# Altium integrated library Renesas Microcontroller M16C.IntLib: 423 symbols (part 16 of 30)
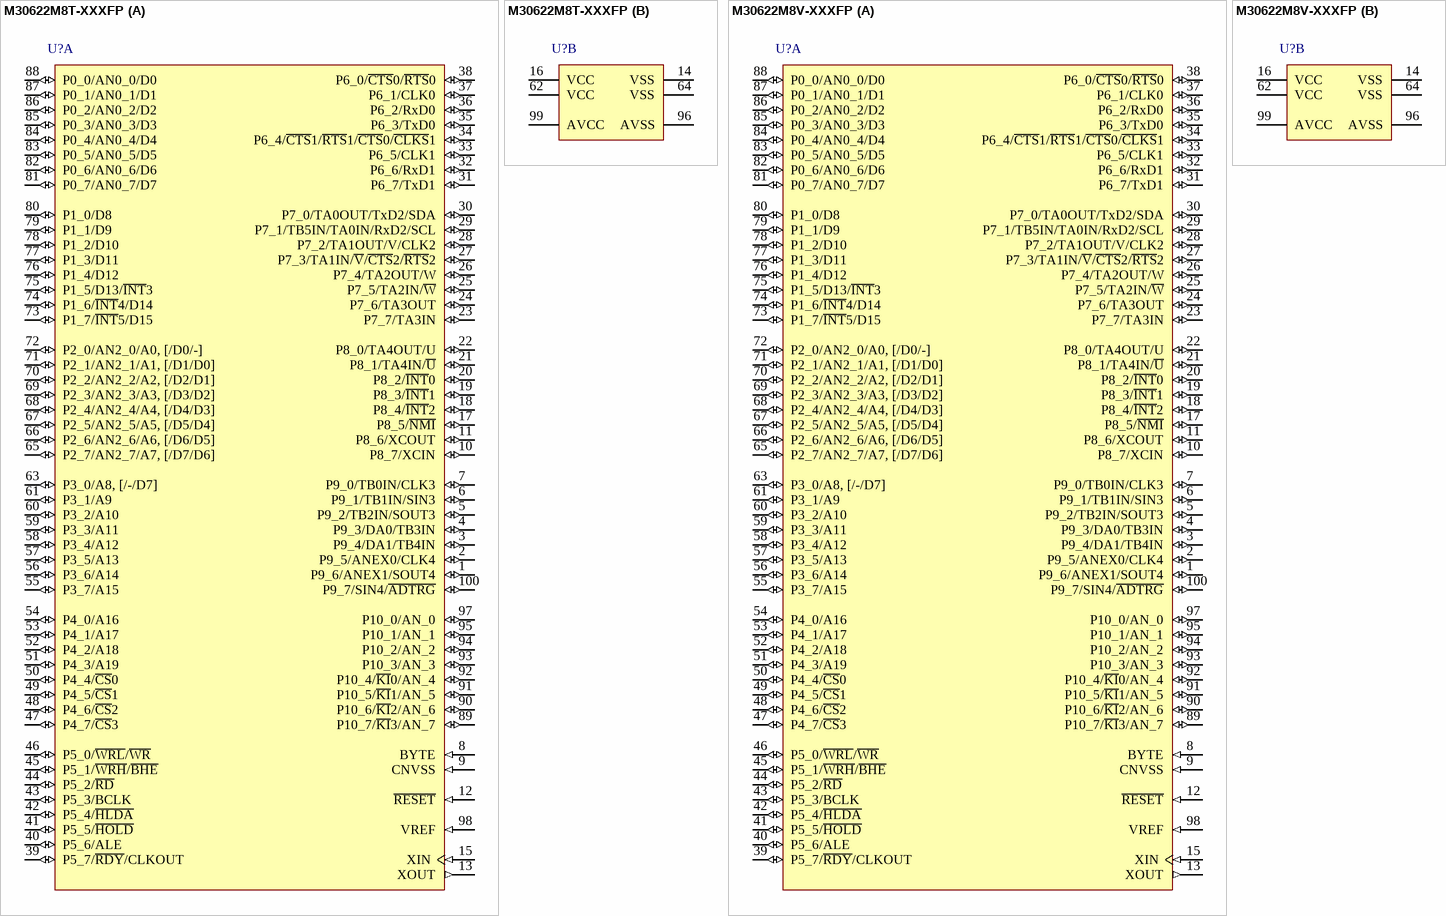
[diagram p201: symbols M30622M8T-XXXFP to M30622M8V-XXXFP]

## M30622M8T-XXXFP
designator U?
Mask ROM M16C/60 Series, 62T Group MCU, 64K ROM, 4K RAM, 100-pin RQFP, +85°C; Note: P7_0 and P7_1 are N channel open-drain output pins.; Published: 28-Aug-2009; DatasheetVersion: Rev.A1, Aug-1999; PackageVersion: Sep-2005; PackageReference: PRQP0100JB-A; Publisher: Altium Limited; PackageDescription: 100-Pin Plastic Quad Flat Pack, 20 x 14 x 2.8 mm Body, 0.65 mm Pitch; Code_JEITA: P-QFP100-14x20-0.65; ComponentLink1Description: Manufacturer Link; ComponentLink1URL: http://sg.renesas.com/fmwk.jsp?cnt=m16c_family_landing.jsp&fp=/products/mpumcu/m16c_family/; ComponentLink2Description: Datasheet; ComponentLink2URL: http://documentation.renesas.com/eng/products/mpumcu/62teds.pdf; ComponentLink3Description: Packaging Specification; ComponentLink3URL: http://sg.renesas.com/media/products/common_info/package/pdf/ic/code/prqp0100jb_a.pdf
footprint PRQP0100JB-A_N (QFP, 100-Leads, Body 20x14mm, Pitch 0.65mm, IPC Medium Density)
footprint PRQP0100JB-A_L (QFP, 100-Leads, Body 20x14mm, Pitch 0.65mm, IPC High Density)
footprint PRQP0100JB-A_M (QFP, 100-Leads, Body 20x14mm, Pitch 0.65mm, IPC Low Density)
part A pins: 1 P9_6/ANEX1/SOUT4 (io), 2 P9_5/ANEX0/CLK4 (io), 3 P9_4/DA1/TB4IN (io), 4 P9_3/DA0/TB3IN (io), 5 P9_2/TB2IN/SOUT3 (io), 6 P9_1/TB1IN/SIN3 (io), 7 P9_0/TB0IN/CLK3 (io), 8 BYTE (in), 9 CNVSS (in), 10 P8_7/XCIN (io), 11 P8_6/XCOUT (io), 12 ~{RESET} (in), 13 XOUT (out), 15 XIN (in), 17 P8_5/~{NMI} (io), 18 P8_4/~{INT}2 (io), 19 P8_3/~{INT}1 (io), 20 P8_2/~{INT}0 (io), 21 P8_1/TA4IN/~{U} (io), 22 P8_0/TA4OUT/U (io), 23 P7_7/TA3IN (io), 24 P7_6/TA3OUT (io), 25 P7_5/TA2IN/~{W} (io), 26 P7_4/TA2OUT/W (io), 27 P7_3/TA1IN/~{V}/~{CTS}2/~{RTS}2 (io), 28 P7_2/TA1OUT/V/CLK2 (io), 29 P7_1/TB5IN/TA0IN/RxD2/SCL (io), 30 P7_0/TA0OUT/TxD2/SDA (io), 31 P6_7/TxD1 (io), 32 P6_6/RxD1 (io), 33 P6_5/CLK1 (io), 34 P6_4/~{CTS}1/~{RTS}1/~{CTS}0/~{CLKS}1 (io), 35 P6_3/TxD0 (io), 36 P6_2/RxD0 (io), 37 P6_1/CLK0 (io), 38 P6_0/~{CTS}0/~{RTS}0 (io), 39 P5_7/~{RDY}/CLKOUT (io), 40 P5_6/ALE (io), 41 P5_5/~{HOLD} (io), 42 P5_4/~{HLDA} (io), 43 P5_3/BCLK (io), 44 P5_2/~{RD} (io), 45 P5_1/~{WRH}/~{BHE} (io), 46 P5_0/~{WRL}/~{WR} (io), 47 P4_7/~{CS}3 (io), 48 P4_6/~{CS}2 (io), 49 P4_5/~{CS}1 (io), 50 P4_4/~{CS}0 (io), 51 P4_3/A19 (io), 52 P4_2/A18 (io), 53 P4_1/A17 (io), 54 P4_0/A16 (io), 55 P3_7/A15 (io), 56 P3_6/A14 (io), 57 P3_5/A13 (io), 58 P3_4/A12 (io), 59 P3_3/A11 (io), 60 P3_2/A10 (io), 61 P3_1/A9 (io), 63 P3_0/A8, [/-/D7] (io), 65 P2_7/AN2_7/A7, [/D7/D6] (io), 66 P2_6/AN2_6/A6, [/D6/D5] (io), 67 P2_5/AN2_5/A5, [/D5/D4] (io), 68 P2_4/AN2_4/A4, [/D4/D3] (io), 69 P2_3/AN2_3/A3, [/D3/D2] (io), 70 P2_2/AN2_2/A2, [/D2/D1] (io), 71 P2_1/AN2_1/A1, [/D1/D0] (io), 72 P2_0/AN2_0/A0, [/D0/-] (io), 73 P1_7/~{INT}5/D15 (io), 74 P1_6/~{INT}4/D14 (io), 75 P1_5/D13/~{INT}3 (io), 76 P1_4/D12 (io), 77 P1_3/D11 (io), 78 P1_2/D10 (io), 79 P1_1/D9 (io), 80 P1_0/D8 (io), 81 P0_7/AN0_7/D7 (io), 82 P0_6/AN0_6/D6 (io), 83 P0_5/AN0_5/D5 (io), 84 P0_4/AN0_4/D4 (io), 85 P0_3/AN0_3/D3 (io), 86 P0_2/AN0_2/D2 (io), 87 P0_1/AN0_1/D1 (io), 88 P0_0/AN0_0/D0 (io), 89 P10_7/~{KI}3/AN_7 (io), 90 P10_6/~{KI}2/AN_6 (io), 91 P10_5/~{KI}1/AN_5 (io), 92 P10_4/~{KI}0/AN_4 (io), 93 P10_3/AN_3 (io), 94 P10_2/AN_2 (io), 95 P10_1/AN_1 (io), 97 P10_0/AN_0 (io), 98 VREF (in), 100 P9_7/SIN4/~{ADTRG} (io)
part B pins: 14 VSS (power), 16 VCC (power), 62 VCC (power), 64 VSS (power), 96 AVSS (power), 99 AVCC (power)

## M30622M8V-XXXFP
designator U?
Mask ROM M16C/60 Series, 62T Group MCU, 64K ROM, 4K RAM, 100-pin RQFP, +125°C; Note: P7_0 and P7_1 are N channel open-drain output pins.; Published: 28-Aug-2009; DatasheetVersion: Rev.A1, Aug-1999; PackageVersion: Sep-2005; PackageReference: PRQP0100JB-A; Publisher: Altium Limited; PackageDescription: 100-Pin Plastic Quad Flat Pack, 20 x 14 x 2.8 mm Body, 0.65 mm Pitch; Code_JEITA: P-QFP100-14x20-0.65; ComponentLink1Description: Manufacturer Link; ComponentLink1URL: http://sg.renesas.com/fmwk.jsp?cnt=m16c_family_landing.jsp&fp=/products/mpumcu/m16c_family/; ComponentLink2Description: Datasheet; ComponentLink2URL: http://documentation.renesas.com/eng/products/mpumcu/62teds.pdf; ComponentLink3Description: Packaging Specification; ComponentLink3URL: http://sg.renesas.com/media/products/common_info/package/pdf/ic/code/prqp0100jb_a.pdf
footprint PRQP0100JB-A_N (QFP, 100-Leads, Body 20x14mm, Pitch 0.65mm, IPC Medium Density)
footprint PRQP0100JB-A_L (QFP, 100-Leads, Body 20x14mm, Pitch 0.65mm, IPC High Density)
footprint PRQP0100JB-A_M (QFP, 100-Leads, Body 20x14mm, Pitch 0.65mm, IPC Low Density)
part A pins: 1 P9_6/ANEX1/SOUT4 (io), 2 P9_5/ANEX0/CLK4 (io), 3 P9_4/DA1/TB4IN (io), 4 P9_3/DA0/TB3IN (io), 5 P9_2/TB2IN/SOUT3 (io), 6 P9_1/TB1IN/SIN3 (io), 7 P9_0/TB0IN/CLK3 (io), 8 BYTE (in), 9 CNVSS (in), 10 P8_7/XCIN (io), 11 P8_6/XCOUT (io), 12 ~{RESET} (in), 13 XOUT (out), 15 XIN (in), 17 P8_5/~{NMI} (io), 18 P8_4/~{INT}2 (io), 19 P8_3/~{INT}1 (io), 20 P8_2/~{INT}0 (io), 21 P8_1/TA4IN/~{U} (io), 22 P8_0/TA4OUT/U (io), 23 P7_7/TA3IN (io), 24 P7_6/TA3OUT (io), 25 P7_5/TA2IN/~{W} (io), 26 P7_4/TA2OUT/W (io), 27 P7_3/TA1IN/~{V}/~{CTS}2/~{RTS}2 (io), 28 P7_2/TA1OUT/V/CLK2 (io), 29 P7_1/TB5IN/TA0IN/RxD2/SCL (io), 30 P7_0/TA0OUT/TxD2/SDA (io), 31 P6_7/TxD1 (io), 32 P6_6/RxD1 (io), 33 P6_5/CLK1 (io), 34 P6_4/~{CTS}1/~{RTS}1/~{CTS}0/~{CLKS}1 (io), 35 P6_3/TxD0 (io), 36 P6_2/RxD0 (io), 37 P6_1/CLK0 (io), 38 P6_0/~{CTS}0/~{RTS}0 (io), 39 P5_7/~{RDY}/CLKOUT (io), 40 P5_6/ALE (io), 41 P5_5/~{HOLD} (io), 42 P5_4/~{HLDA} (io), 43 P5_3/BCLK (io), 44 P5_2/~{RD} (io), 45 P5_1/~{WRH}/~{BHE} (io), 46 P5_0/~{WRL}/~{WR} (io), 47 P4_7/~{CS}3 (io), 48 P4_6/~{CS}2 (io), 49 P4_5/~{CS}1 (io), 50 P4_4/~{CS}0 (io), 51 P4_3/A19 (io), 52 P4_2/A18 (io), 53 P4_1/A17 (io), 54 P4_0/A16 (io), 55 P3_7/A15 (io), 56 P3_6/A14 (io), 57 P3_5/A13 (io), 58 P3_4/A12 (io), 59 P3_3/A11 (io), 60 P3_2/A10 (io), 61 P3_1/A9 (io), 63 P3_0/A8, [/-/D7] (io), 65 P2_7/AN2_7/A7, [/D7/D6] (io), 66 P2_6/AN2_6/A6, [/D6/D5] (io), 67 P2_5/AN2_5/A5, [/D5/D4] (io), 68 P2_4/AN2_4/A4, [/D4/D3] (io), 69 P2_3/AN2_3/A3, [/D3/D2] (io), 70 P2_2/AN2_2/A2, [/D2/D1] (io), 71 P2_1/AN2_1/A1, [/D1/D0] (io), 72 P2_0/AN2_0/A0, [/D0/-] (io), 73 P1_7/~{INT}5/D15 (io), 74 P1_6/~{INT}4/D14 (io), 75 P1_5/D13/~{INT}3 (io), 76 P1_4/D12 (io), 77 P1_3/D11 (io), 78 P1_2/D10 (io), 79 P1_1/D9 (io), 80 P1_0/D8 (io), 81 P0_7/AN0_7/D7 (io), 82 P0_6/AN0_6/D6 (io), 83 P0_5/AN0_5/D5 (io), 84 P0_4/AN0_4/D4 (io), 85 P0_3/AN0_3/D3 (io), 86 P0_2/AN0_2/D2 (io), 87 P0_1/AN0_1/D1 (io), 88 P0_0/AN0_0/D0 (io), 89 P10_7/~{KI}3/AN_7 (io), 90 P10_6/~{KI}2/AN_6 (io), 91 P10_5/~{KI}1/AN_5 (io), 92 P10_4/~{KI}0/AN_4 (io), 93 P10_3/AN_3 (io), 94 P10_2/AN_2 (io), 95 P10_1/AN_1 (io), 97 P10_0/AN_0 (io), 98 VREF (in), 100 P9_7/SIN4/~{ADTRG} (io)
part B pins: 14 VSS (power), 16 VCC (power), 62 VCC (power), 64 VSS (power), 96 AVSS (power), 99 AVCC (power)

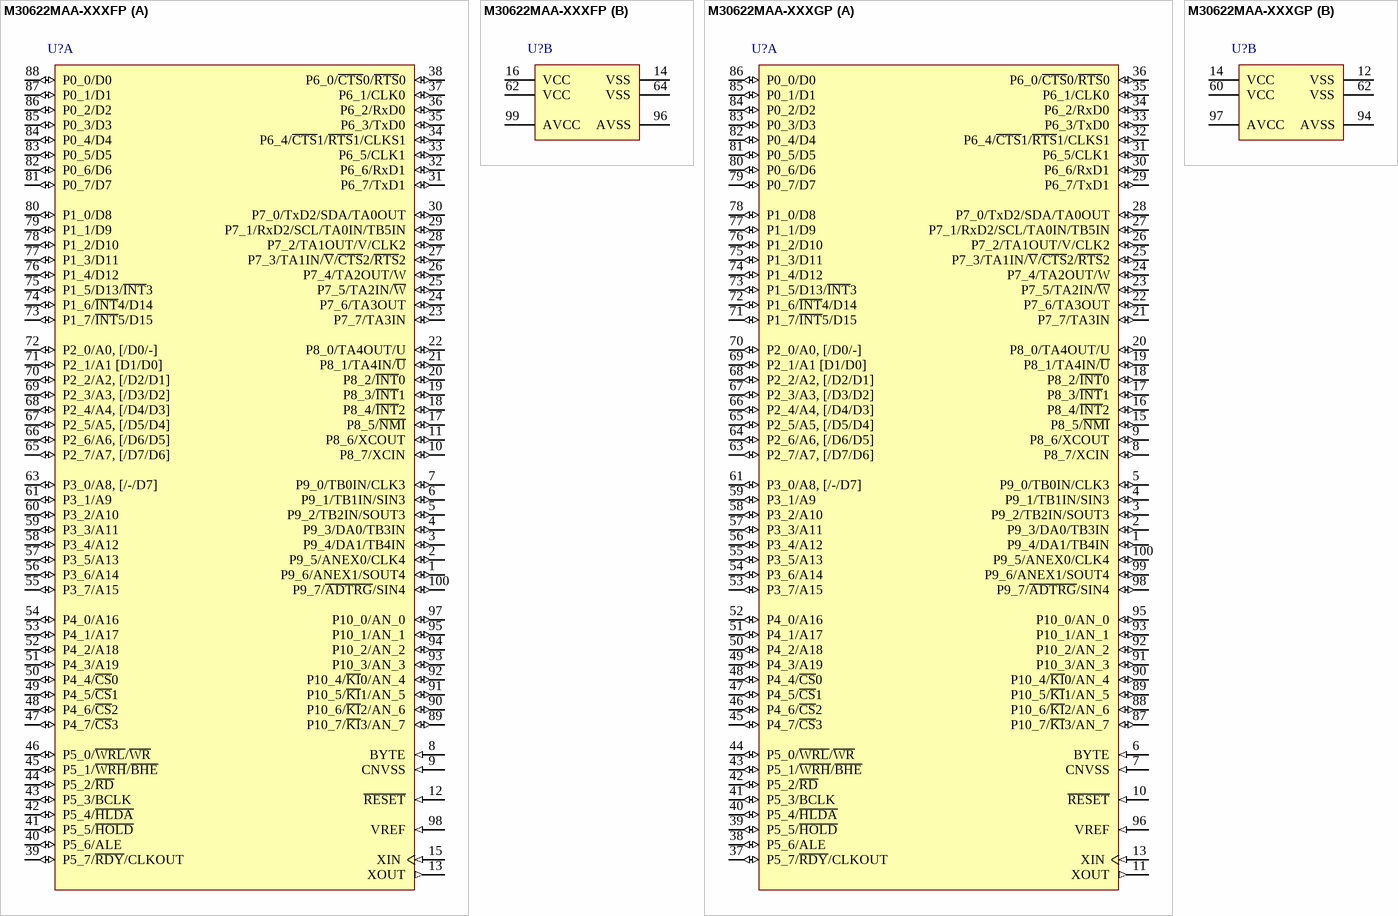
[diagram p93: symbols M30622MAA-XXXFP to M30622MAA-XXXGP]

## M30622MAA-XXXFP
designator U?
Masked ROM M16C/60 Series, 62A Group MCU, 96K ROM, 5K RAM, 100-pin RQFP; Note: P7_0 and P7_1 are N channel open-drain output pins.; Published: 28-Aug-2009; DatasheetVersion: Rev.1.0, Jun-2001; PackageVersion: Sep-2005; PackageReference: PRQP0100JB-A; Publisher: Altium Limited; PackageDescription: 100-Pin Plastic Quad Flat Pack, 20 x 14 x 2.8 mm Body, 0.65 mm Pitch; Code_JEITA: P-QFP100-14x20-0.65; ComponentLink1Description: Manufacturer Link; ComponentLink1URL: http://sg.renesas.com/fmwk.jsp?cnt=m16c_family_landing.jsp&fp=/products/mpumcu/m16c_family/; ComponentLink2Description: Datasheet; ComponentLink2URL: http://documentation.renesas.com/eng/products/mpumcu/62aeum.pdf; ComponentLink3Description: Packaging Specification; ComponentLink3URL: http://sg.renesas.com/media/products/common_info/package/pdf/ic/code/prqp0100jb_a.pdf
footprint PRQP0100JB-A_N (QFP, 100-Leads, Body 20x14mm, Pitch 0.65mm, IPC Medium Density)
footprint PRQP0100JB-A_L (QFP, 100-Leads, Body 20x14mm, Pitch 0.65mm, IPC High Density)
footprint PRQP0100JB-A_M (QFP, 100-Leads, Body 20x14mm, Pitch 0.65mm, IPC Low Density)
part A pins: 1 P9_6/ANEX1/SOUT4 (io), 2 P9_5/ANEX0/CLK4 (io), 3 P9_4/DA1/TB4IN (io), 4 P9_3/DA0/TB3IN (io), 5 P9_2/TB2IN/SOUT3 (io), 6 P9_1/TB1IN/SIN3 (io), 7 P9_0/TB0IN/CLK3 (io), 8 BYTE (in), 9 CNVSS (in), 10 P8_7/XCIN (io), 11 P8_6/XCOUT (io), 12 ~{RESET} (in), 13 XOUT (out), 15 XIN (in), 17 P8_5/~{NMI} (io), 18 P8_4/~{INT}2 (io), 19 P8_3/~{INT}1 (io), 20 P8_2/~{INT}0 (io), 21 P8_1/TA4IN/~{U} (io), 22 P8_0/TA4OUT/U (io), 23 P7_7/TA3IN (io), 24 P7_6/TA3OUT (io), 25 P7_5/TA2IN/~{W} (io), 26 P7_4/TA2OUT/W (io), 27 P7_3/TA1IN/~{V}/~{CTS}2/~{RTS}2 (io), 28 P7_2/TA1OUT/V/CLK2 (io), 29 P7_1/RxD2/SCL/TA0IN/TB5IN (io), 30 P7_0/TxD2/SDA/TA0OUT (io), 31 P6_7/TxD1 (io), 32 P6_6/RxD1 (io), 33 P6_5/CLK1 (io), 34 P6_4/~{CTS}1/~{RTS}1/CLKS1 (io), 35 P6_3/TxD0 (io), 36 P6_2/RxD0 (io), 37 P6_1/CLK0 (io), 38 P6_0/~{CTS}0/~{RTS}0 (io), 39 P5_7/~{RDY}/CLKOUT (io), 40 P5_6/ALE (io), 41 P5_5/~{HOLD} (io), 42 P5_4/~{HLDA} (io), 43 P5_3/BCLK (io), 44 P5_2/~{RD} (io), 45 P5_1/~{WRH}/~{BHE} (io), 46 P5_0/~{WRL}/~{WR} (io), 47 P4_7/~{CS}3 (io), 48 P4_6/~{CS}2 (io), 49 P4_5/~{CS}1 (io), 50 P4_4/~{CS}0 (io), 51 P4_3/A19 (io), 52 P4_2/A18 (io), 53 P4_1/A17 (io), 54 P4_0/A16 (io), 55 P3_7/A15 (io), 56 P3_6/A14 (io), 57 P3_5/A13 (io), 58 P3_4/A12 (io), 59 P3_3/A11 (io), 60 P3_2/A10 (io), 61 P3_1/A9 (io), 63 P3_0/A8, [/-/D7] (io), 65 P2_7/A7, [/D7/D6] (io), 66 P2_6/A6, [/D6/D5] (io), 67 P2_5/A5, [/D5/D4] (io), 68 P2_4/A4, [/D4/D3] (io), 69 P2_3/A3, [/D3/D2] (io), 70 P2_2/A2, [/D2/D1] (io), 71 P2_1/A1 [D1/D0] (io), 72 P2_0/A0, [/D0/-] (io), 73 P1_7/~{INT}5/D15 (io), 74 P1_6/~{INT}4/D14 (io), 75 P1_5/D13/~{INT}3 (io), 76 P1_4/D12 (io), 77 P1_3/D11 (io), 78 P1_2/D10 (io), 79 P1_1/D9 (io), 80 P1_0/D8 (io), 81 P0_7/D7 (io), 82 P0_6/D6 (io), 83 P0_5/D5 (io), 84 P0_4/D4 (io), 85 P0_3/D3 (io), 86 P0_2/D2 (io), 87 P0_1/D1 (io), 88 P0_0/D0 (io), 89 P10_7/~{KI}3/AN_7 (io), 90 P10_6/~{KI}2/AN_6 (io), 91 P10_5/~{KI}1/AN_5 (io), 92 P10_4/~{KI}0/AN_4 (io), 93 P10_3/AN_3 (io), 94 P10_2/AN_2 (io), 95 P10_1/AN_1 (io), 97 P10_0/AN_0 (io), 98 VREF (in), 100 P9_7/~{ADTRG}/SIN4 (io)
part B pins: 14 VSS (power), 16 VCC (power), 62 VCC (power), 64 VSS (power), 96 AVSS (power), 99 AVCC (power)

## M30622MAA-XXXGP
designator U?
Masked ROM M16C/60 Series, 62A Group MCU, 96K ROM, 5K RAM, 100-pin LQFP; Note: P7_0 and P7_1 are N channel open-drain output pins.; Published: 28-Aug-2009; DatasheetVersion: Rev.1.0, Jun-2001; PackageVersion: Sep-2005; PackageReference: PLQP0100KB-A; Publisher: Altium Limited; PackageDescription: 100-Pin Plastic Low Profile QFP, 14 x 14 x 1.4 mm Body, 0.5 mm Pitch; Code_JEITA: P-LQFP100-14x14-0.50; Code_IPC: SQFP50P1600X1600-100; ComponentLink1Description: Manufacturer Link; ComponentLink1URL: http://sg.renesas.com/fmwk.jsp?cnt=m16c_family_landing.jsp&fp=/products/mpumcu/m16c_family/; ComponentLink2Description: Datasheet; ComponentLink2URL: http://documentation.renesas.com/eng/products/mpumcu/62aeum.pdf; ComponentLink3Description: Packaging Specification; ComponentLink3URL: http://sg.renesas.com/media/products/common_info/package/pdf/ic/code/plqp0100kb_a.pdf
footprint PLQP0100KB-A_N (Shrink QFP, 100-Leads, Body 14x14mm, Pitch 0.5mm, IPC Medium Density)
footprint PLQP0100KB-A_L (Shrink QFP, 100-Leads, Body 14x14mm, Pitch 0.5mm, IPC High Density)
footprint PLQP0100KB-A_M (Shrink QFP, 100-Leads, Body 14x14mm, Pitch 0.5mm, IPC Low Density)
part A pins: 1 P9_4/DA1/TB4IN (io), 2 P9_3/DA0/TB3IN (io), 3 P9_2/TB2IN/SOUT3 (io), 4 P9_1/TB1IN/SIN3 (io), 5 P9_0/TB0IN/CLK3 (io), 6 BYTE (in), 7 CNVSS (in), 8 P8_7/XCIN (io), 9 P8_6/XCOUT (io), 10 ~{RESET} (in), 11 XOUT (out), 13 XIN (in), 15 P8_5/~{NMI} (io), 16 P8_4/~{INT}2 (io), 17 P8_3/~{INT}1 (io), 18 P8_2/~{INT}0 (io), 19 P8_1/TA4IN/~{U} (io), 20 P8_0/TA4OUT/U (io), 21 P7_7/TA3IN (io), 22 P7_6/TA3OUT (io), 23 P7_5/TA2IN/~{W} (io), 24 P7_4/TA2OUT/W (io), 25 P7_3/TA1IN/~{V}/~{CTS}2/~{RTS}2 (io), 26 P7_2/TA1OUT/V/CLK2 (io), 27 P7_1/RxD2/SCL/TA0IN/TB5IN (io), 28 P7_0/TxD2/SDA/TA0OUT (io), 29 P6_7/TxD1 (io), 30 P6_6/RxD1 (io), 31 P6_5/CLK1 (io), 32 P6_4/~{CTS}1/~{RTS}1/CLKS1 (io), 33 P6_3/TxD0 (io), 34 P6_2/RxD0 (io), 35 P6_1/CLK0 (io), 36 P6_0/~{CTS}0/~{RTS}0 (io), 37 P5_7/~{RDY}/CLKOUT (io), 38 P5_6/ALE (io), 39 P5_5/~{HOLD} (io), 40 P5_4/~{HLDA} (io), 41 P5_3/BCLK (io), 42 P5_2/~{RD} (io), 43 P5_1/~{WRH}/~{BHE} (io), 44 P5_0/~{WRL}/~{WR} (io), 45 P4_7/~{CS}3 (io), 46 P4_6/~{CS}2 (io), 47 P4_5/~{CS}1 (io), 48 P4_4/~{CS}0 (io), 49 P4_3/A19 (io), 50 P4_2/A18 (io), 51 P4_1/A17 (io), 52 P4_0/A16 (io), 53 P3_7/A15 (io), 54 P3_6/A14 (io), 55 P3_5/A13 (io), 56 P3_4/A12 (io), 57 P3_3/A11 (io), 58 P3_2/A10 (io), 59 P3_1/A9 (io), 61 P3_0/A8, [/-/D7] (io), 63 P2_7/A7, [/D7/D6] (io), 64 P2_6/A6, [/D6/D5] (io), 65 P2_5/A5, [/D5/D4] (io), 66 P2_4/A4, [/D4/D3] (io), 67 P2_3/A3, [/D3/D2] (io), 68 P2_2/A2, [/D2/D1] (io), 69 P2_1/A1 [D1/D0] (io), 70 P2_0/A0, [/D0/-] (io), 71 P1_7/~{INT}5/D15 (io), 72 P1_6/~{INT}4/D14 (io), 73 P1_5/D13/~{INT}3 (io), 74 P1_4/D12 (io), 75 P1_3/D11 (io), 76 P1_2/D10 (io), 77 P1_1/D9 (io), 78 P1_0/D8 (io), 79 P0_7/D7 (io), 80 P0_6/D6 (io), 81 P0_5/D5 (io), 82 P0_4/D4 (io), 83 P0_3/D3 (io), 84 P0_2/D2 (io), 85 P0_1/D1 (io), 86 P0_0/D0 (io), 87 P10_7/~{KI}3/AN_7 (io), 88 P10_6/~{KI}2/AN_6 (io), 89 P10_5/~{KI}1/AN_5 (io), 90 P10_4/~{KI}0/AN_4 (io), 91 P10_3/AN_3 (io), 92 P10_2/AN_2 (io), 93 P10_1/AN_1 (io), 95 P10_0/AN_0 (io), 96 VREF (in), 98 P9_7/~{ADTRG}/SIN4 (io), 99 P9_6/ANEX1/SOUT4 (io), 100 P9_5/ANEX0/CLK4 (io)
part B pins: 12 VSS (power), 14 VCC (power), 60 VCC (power), 62 VSS (power), 94 AVSS (power), 97 AVCC (power)

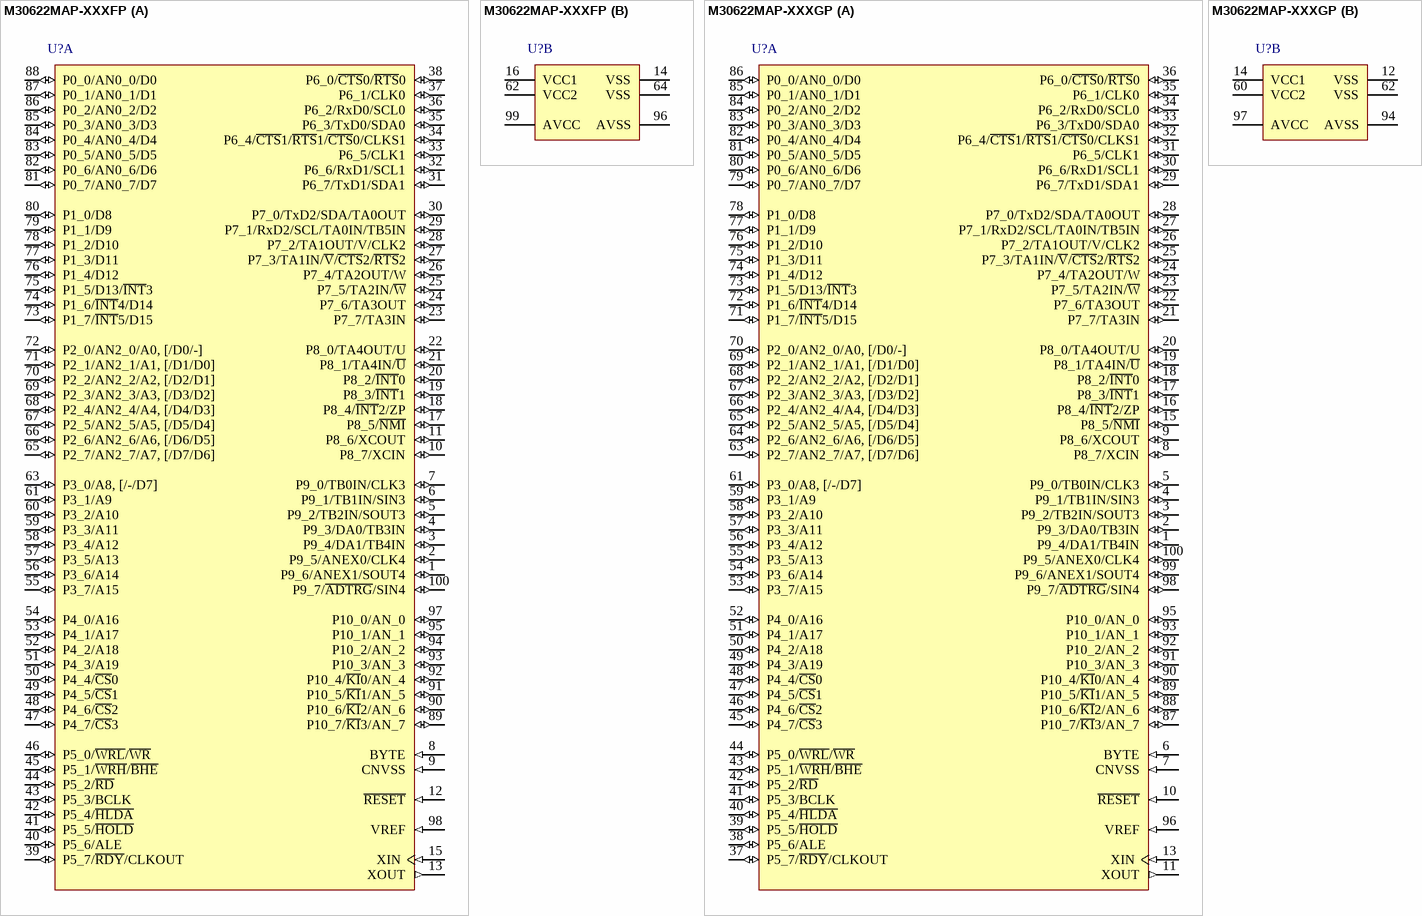
[diagram p94: symbols M30622MAP-XXXFP to M30622MAP-XXXGP]

## M30622MAP-XXXFP
designator U?
Mask ROM M16C/60 Series, 62P Group MCU, 96K ROM, 5K RAM, 100-pin RQFP; Note: P7_0 and P7_1 are N channel open-drain output pins.; Published: 28-Aug-2009; DatasheetVersion: Rev.2.41, Jan-2006; PackageVersion: Sep-2005; PackageReference: PRQP0100JB-A; Publisher: Altium Limited; PackageDescription: 100-Pin Plastic Quad Flat Pack, 20 x 14 x 2.8 mm Body, 0.65 mm Pitch; Code_JEITA: P-QFP100-14x20-0.65; ComponentLink1Description: Manufacturer Link; ComponentLink1URL: http://sg.renesas.com/fmwk.jsp?cnt=m16c_family_landing.jsp&fp=/products/mpumcu/m16c_family/; ComponentLink2Description: Datasheet; ComponentLink2URL: http://documentation.renesas.com/eng/products/mpumcu/rej09b0185_16c62pthm.pdf; ComponentLink3Description: Packaging Specification; ComponentLink3URL: http://sg.renesas.com/media/products/common_info/package/pdf/ic/code/prqp0100jb_a.pdf
footprint PRQP0100JB-A_N (QFP, 100-Leads, Body 20x14mm, Pitch 0.65mm, IPC Medium Density)
footprint PRQP0100JB-A_L (QFP, 100-Leads, Body 20x14mm, Pitch 0.65mm, IPC High Density)
footprint PRQP0100JB-A_M (QFP, 100-Leads, Body 20x14mm, Pitch 0.65mm, IPC Low Density)
part A pins: 1 P9_6/ANEX1/SOUT4 (io), 2 P9_5/ANEX0/CLK4 (io), 3 P9_4/DA1/TB4IN (io), 4 P9_3/DA0/TB3IN (io), 5 P9_2/TB2IN/SOUT3 (io), 6 P9_1/TB1IN/SIN3 (io), 7 P9_0/TB0IN/CLK3 (io), 8 BYTE (in), 9 CNVSS (in), 10 P8_7/XCIN (io), 11 P8_6/XCOUT (io), 12 ~{RESET} (in), 13 XOUT (out), 15 XIN (in), 17 P8_5/~{NMI} (io), 18 P8_4/~{INT}2/ZP (io), 19 P8_3/~{INT}1 (io), 20 P8_2/~{INT}0 (io), 21 P8_1/TA4IN/~{U} (io), 22 P8_0/TA4OUT/U (io), 23 P7_7/TA3IN (io), 24 P7_6/TA3OUT (io), 25 P7_5/TA2IN/~{W} (io), 26 P7_4/TA2OUT/W (io), 27 P7_3/TA1IN/~{V}/~{CTS}2/~{RTS}2 (io), 28 P7_2/TA1OUT/V/CLK2 (io), 29 P7_1/RxD2/SCL/TA0IN/TB5IN (io), 30 P7_0/TxD2/SDA/TA0OUT (io), 31 P6_7/TxD1/SDA1 (io), 32 P6_6/RxD1/SCL1 (io), 33 P6_5/CLK1 (io), 34 P6_4/~{CTS}1/~{RTS}1/~{CTS}0/CLKS1 (io), 35 P6_3/TxD0/SDA0 (io), 36 P6_2/RxD0/SCL0 (io), 37 P6_1/CLK0 (io), 38 P6_0/~{CTS}0/~{RTS}0 (io), 39 P5_7/~{RDY}/CLKOUT (io), 40 P5_6/ALE (io), 41 P5_5/~{HOLD} (io), 42 P5_4/~{HLDA} (io), 43 P5_3/BCLK (io), 44 P5_2/~{RD} (io), 45 P5_1/~{WRH}/~{BHE} (io), 46 P5_0/~{WRL}/~{WR} (io), 47 P4_7/~{CS}3 (io), 48 P4_6/~{CS}2 (io), 49 P4_5/~{CS}1 (io), 50 P4_4/~{CS}0 (io), 51 P4_3/A19 (io), 52 P4_2/A18 (io), 53 P4_1/A17 (io), 54 P4_0/A16 (io), 55 P3_7/A15 (io), 56 P3_6/A14 (io), 57 P3_5/A13 (io), 58 P3_4/A12 (io), 59 P3_3/A11 (io), 60 P3_2/A10 (io), 61 P3_1/A9 (io), 63 P3_0/A8, [/-/D7] (io), 65 P2_7/AN2_7/A7, [/D7/D6] (io), 66 P2_6/AN2_6/A6, [/D6/D5] (io), 67 P2_5/AN2_5/A5, [/D5/D4] (io), 68 P2_4/AN2_4/A4, [/D4/D3] (io), 69 P2_3/AN2_3/A3, [/D3/D2] (io), 70 P2_2/AN2_2/A2, [/D2/D1] (io), 71 P2_1/AN2_1/A1, [/D1/D0] (io), 72 P2_0/AN2_0/A0, [/D0/-] (io), 73 P1_7/~{INT}5/D15 (io), 74 P1_6/~{INT}4/D14 (io), 75 P1_5/D13/~{INT}3 (io), 76 P1_4/D12 (io), 77 P1_3/D11 (io), 78 P1_2/D10 (io), 79 P1_1/D9 (io), 80 P1_0/D8 (io), 81 P0_7/AN0_7/D7 (io), 82 P0_6/AN0_6/D6 (io), 83 P0_5/AN0_5/D5 (io), 84 P0_4/AN0_4/D4 (io), 85 P0_3/AN0_3/D3 (io), 86 P0_2/AN0_2/D2 (io), 87 P0_1/AN0_1/D1 (io), 88 P0_0/AN0_0/D0 (io), 89 P10_7/~{KI}3/AN_7 (io), 90 P10_6/~{KI}2/AN_6 (io), 91 P10_5/~{KI}1/AN_5 (io), 92 P10_4/~{KI}0/AN_4 (io), 93 P10_3/AN_3 (io), 94 P10_2/AN_2 (io), 95 P10_1/AN_1 (io), 97 P10_0/AN_0 (io), 98 VREF (in), 100 P9_7/~{ADTRG}/SIN4 (io)
part B pins: 14 VSS (power), 16 VCC1 (power), 62 VCC2 (power), 64 VSS (power), 96 AVSS (power), 99 AVCC (power)

## M30622MAP-XXXGP
designator U?
Mask ROM M16C/60 Series, 62P Group MCU, 96K ROM, 5K RAM, 100-pin LQFP; Note: P7_0 and P7_1 are N channel open-drain output pins.; Published: 28-Aug-2009; DatasheetVersion: Rev.2.41, Jan-2006; PackageVersion: Sep-2005; PackageReference: PLQP0100KB-A; Publisher: Altium Limited; PackageDescription: 100-Pin Plastic Low Profile QFP, 14 x 14 x 1.4 mm Body, 0.5 mm Pitch; Code_JEITA: P-LQFP100-14x14-0.50; Code_IPC: SQFP50P1600X1600-100; ComponentLink1Description: Manufacturer Link; ComponentLink1URL: http://sg.renesas.com/fmwk.jsp?cnt=m16c_family_landing.jsp&fp=/products/mpumcu/m16c_family/; ComponentLink2Description: Datasheet; ComponentLink2URL: http://documentation.renesas.com/eng/products/mpumcu/rej09b0185_16c62pthm.pdf; ComponentLink3Description: Packaging Specification; ComponentLink3URL: http://sg.renesas.com/media/products/common_info/package/pdf/ic/code/plqp0100kb_a.pdf
footprint PLQP0100KB-A_N (Shrink QFP, 100-Leads, Body 14x14mm, Pitch 0.5mm, IPC Medium Density)
footprint PLQP0100KB-A_L (Shrink QFP, 100-Leads, Body 14x14mm, Pitch 0.5mm, IPC High Density)
footprint PLQP0100KB-A_M (Shrink QFP, 100-Leads, Body 14x14mm, Pitch 0.5mm, IPC Low Density)
part A pins: 1 P9_4/DA1/TB4IN (io), 2 P9_3/DA0/TB3IN (io), 3 P9_2/TB2IN/SOUT3 (io), 4 P9_1/TB1IN/SIN3 (io), 5 P9_0/TB0IN/CLK3 (io), 6 BYTE (in), 7 CNVSS (in), 8 P8_7/XCIN (io), 9 P8_6/XCOUT (io), 10 ~{RESET} (in), 11 XOUT (out), 13 XIN (in), 15 P8_5/~{NMI} (io), 16 P8_4/~{INT}2/ZP (io), 17 P8_3/~{INT}1 (io), 18 P8_2/~{INT}0 (io), 19 P8_1/TA4IN/~{U} (io), 20 P8_0/TA4OUT/U (io), 21 P7_7/TA3IN (io), 22 P7_6/TA3OUT (io), 23 P7_5/TA2IN/~{W} (io), 24 P7_4/TA2OUT/W (io), 25 P7_3/TA1IN/~{V}/~{CTS}2/~{RTS}2 (io), 26 P7_2/TA1OUT/V/CLK2 (io), 27 P7_1/RxD2/SCL/TA0IN/TB5IN (io), 28 P7_0/TxD2/SDA/TA0OUT (io), 29 P6_7/TxD1/SDA1 (io), 30 P6_6/RxD1/SCL1 (io), 31 P6_5/CLK1 (io), 32 P6_4/~{CTS}1/~{RTS}1/~{CTS}0/CLKS1 (io), 33 P6_3/TxD0/SDA0 (io), 34 P6_2/RxD0/SCL0 (io), 35 P6_1/CLK0 (io), 36 P6_0/~{CTS}0/~{RTS}0 (io), 37 P5_7/~{RDY}/CLKOUT (io), 38 P5_6/ALE (io), 39 P5_5/~{HOLD} (io), 40 P5_4/~{HLDA} (io), 41 P5_3/BCLK (io), 42 P5_2/~{RD} (io), 43 P5_1/~{WRH}/~{BHE} (io), 44 P5_0/~{WRL}/~{WR} (io), 45 P4_7/~{CS}3 (io), 46 P4_6/~{CS}2 (io), 47 P4_5/~{CS}1 (io), 48 P4_4/~{CS}0 (io), 49 P4_3/A19 (io), 50 P4_2/A18 (io), 51 P4_1/A17 (io), 52 P4_0/A16 (io), 53 P3_7/A15 (io), 54 P3_6/A14 (io), 55 P3_5/A13 (io), 56 P3_4/A12 (io), 57 P3_3/A11 (io), 58 P3_2/A10 (io), 59 P3_1/A9 (io), 61 P3_0/A8, [/-/D7] (io), 63 P2_7/AN2_7/A7, [/D7/D6] (io), 64 P2_6/AN2_6/A6, [/D6/D5] (io), 65 P2_5/AN2_5/A5, [/D5/D4] (io), 66 P2_4/AN2_4/A4, [/D4/D3] (io), 67 P2_3/AN2_3/A3, [/D3/D2] (io), 68 P2_2/AN2_2/A2, [/D2/D1] (io), 69 P2_1/AN2_1/A1, [/D1/D0] (io), 70 P2_0/AN2_0/A0, [/D0/-] (io), 71 P1_7/~{INT}5/D15 (io), 72 P1_6/~{INT}4/D14 (io), 73 P1_5/D13/~{INT}3 (io), 74 P1_4/D12 (io), 75 P1_3/D11 (io), 76 P1_2/D10 (io), 77 P1_1/D9 (io), 78 P1_0/D8 (io), 79 P0_7/AN0_7/D7 (io), 80 P0_6/AN0_6/D6 (io), 81 P0_5/AN0_5/D5 (io), 82 P0_4/AN0_4/D4 (io), 83 P0_3/AN0_3/D3 (io), 84 P0_2/AN0_2/D2 (io), 85 P0_1/AN0_1/D1 (io), 86 P0_0/AN0_0/D0 (io), 87 P10_7/~{KI}3/AN_7 (io), 88 P10_6/~{KI}2/AN_6 (io), 89 P10_5/~{KI}1/AN_5 (io), 90 P10_4/~{KI}0/AN_4 (io), 91 P10_3/AN_3 (io), 92 P10_2/AN_2 (io), 93 P10_1/AN_1 (io), 95 P10_0/AN_0 (io), 96 VREF (in), 98 P9_7/~{ADTRG}/SIN4 (io), 99 P9_6/ANEX1/SOUT4 (io), 100 P9_5/ANEX0/CLK4 (io)
part B pins: 12 VSS (power), 14 VCC1 (power), 60 VCC2 (power), 62 VSS (power), 94 AVSS (power), 97 AVCC (power)

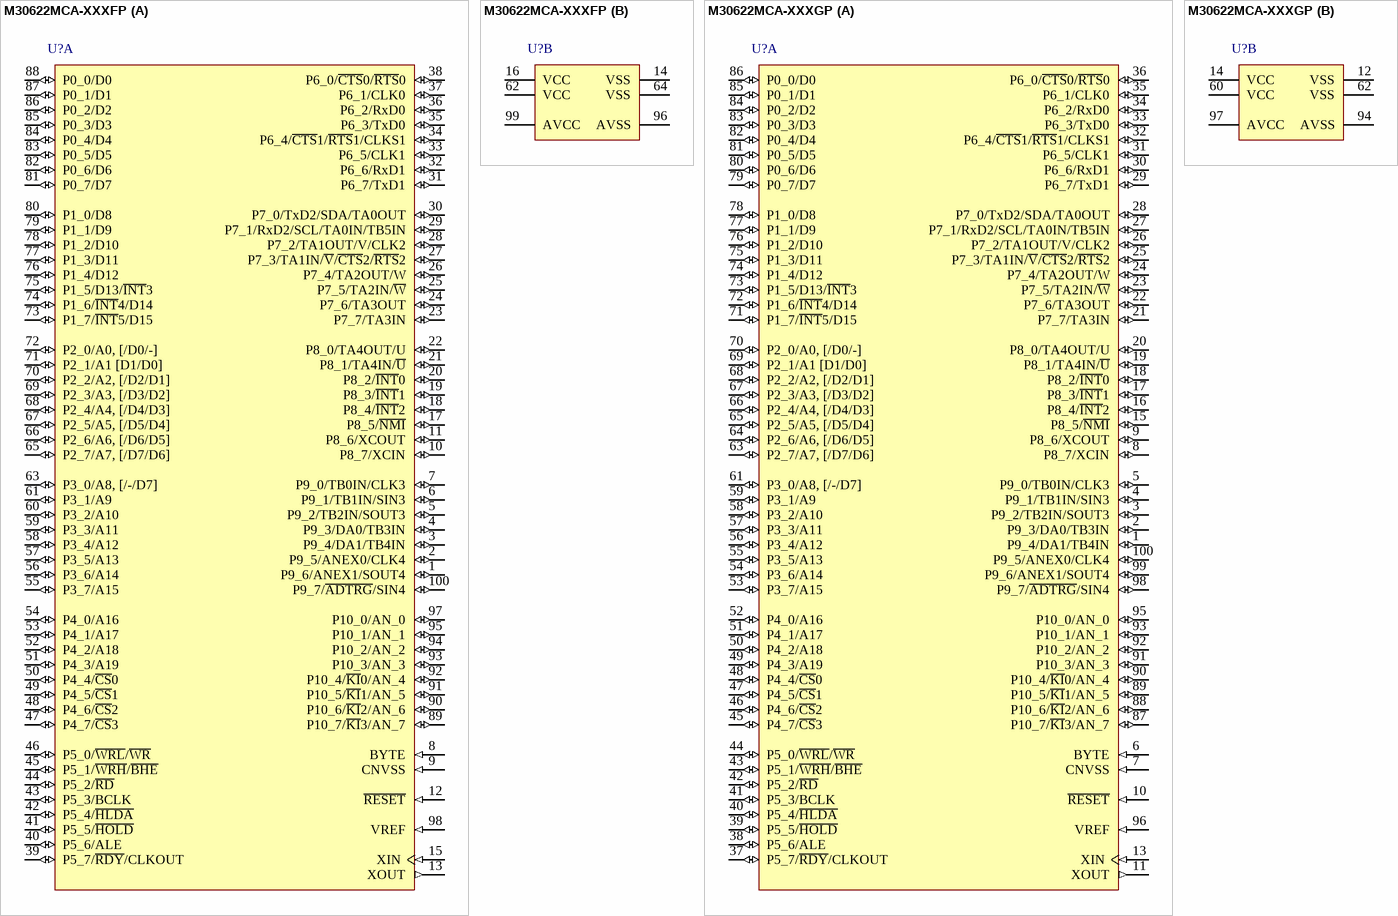
[diagram p95: symbols M30622MCA-XXXFP to M30622MCA-XXXGP]

## M30622MCA-XXXFP
designator U?
Masked ROM M16C/60 Series, 62A Group MCU, 128K ROM, 5K RAM, 100-pin RQFP; Note: P7_0 and P7_1 are N channel open-drain output pins.; Published: 28-Aug-2009; DatasheetVersion: Rev.1.0, Jun-2001; PackageVersion: Sep-2005; PackageReference: PRQP0100JB-A; Publisher: Altium Limited; PackageDescription: 100-Pin Plastic Quad Flat Pack, 20 x 14 x 2.8 mm Body, 0.65 mm Pitch; Code_JEITA: P-QFP100-14x20-0.65; ComponentLink1Description: Manufacturer Link; ComponentLink1URL: http://sg.renesas.com/fmwk.jsp?cnt=m16c_family_landing.jsp&fp=/products/mpumcu/m16c_family/; ComponentLink2Description: Datasheet; ComponentLink2URL: http://documentation.renesas.com/eng/products/mpumcu/62aeum.pdf; ComponentLink3Description: Packaging Specification; ComponentLink3URL: http://sg.renesas.com/media/products/common_info/package/pdf/ic/code/prqp0100jb_a.pdf
footprint PRQP0100JB-A_N (QFP, 100-Leads, Body 20x14mm, Pitch 0.65mm, IPC Medium Density)
footprint PRQP0100JB-A_L (QFP, 100-Leads, Body 20x14mm, Pitch 0.65mm, IPC High Density)
footprint PRQP0100JB-A_M (QFP, 100-Leads, Body 20x14mm, Pitch 0.65mm, IPC Low Density)
part A pins: 1 P9_6/ANEX1/SOUT4 (io), 2 P9_5/ANEX0/CLK4 (io), 3 P9_4/DA1/TB4IN (io), 4 P9_3/DA0/TB3IN (io), 5 P9_2/TB2IN/SOUT3 (io), 6 P9_1/TB1IN/SIN3 (io), 7 P9_0/TB0IN/CLK3 (io), 8 BYTE (in), 9 CNVSS (in), 10 P8_7/XCIN (io), 11 P8_6/XCOUT (io), 12 ~{RESET} (in), 13 XOUT (out), 15 XIN (in), 17 P8_5/~{NMI} (io), 18 P8_4/~{INT}2 (io), 19 P8_3/~{INT}1 (io), 20 P8_2/~{INT}0 (io), 21 P8_1/TA4IN/~{U} (io), 22 P8_0/TA4OUT/U (io), 23 P7_7/TA3IN (io), 24 P7_6/TA3OUT (io), 25 P7_5/TA2IN/~{W} (io), 26 P7_4/TA2OUT/W (io), 27 P7_3/TA1IN/~{V}/~{CTS}2/~{RTS}2 (io), 28 P7_2/TA1OUT/V/CLK2 (io), 29 P7_1/RxD2/SCL/TA0IN/TB5IN (io), 30 P7_0/TxD2/SDA/TA0OUT (io), 31 P6_7/TxD1 (io), 32 P6_6/RxD1 (io), 33 P6_5/CLK1 (io), 34 P6_4/~{CTS}1/~{RTS}1/CLKS1 (io), 35 P6_3/TxD0 (io), 36 P6_2/RxD0 (io), 37 P6_1/CLK0 (io), 38 P6_0/~{CTS}0/~{RTS}0 (io), 39 P5_7/~{RDY}/CLKOUT (io), 40 P5_6/ALE (io), 41 P5_5/~{HOLD} (io), 42 P5_4/~{HLDA} (io), 43 P5_3/BCLK (io), 44 P5_2/~{RD} (io), 45 P5_1/~{WRH}/~{BHE} (io), 46 P5_0/~{WRL}/~{WR} (io), 47 P4_7/~{CS}3 (io), 48 P4_6/~{CS}2 (io), 49 P4_5/~{CS}1 (io), 50 P4_4/~{CS}0 (io), 51 P4_3/A19 (io), 52 P4_2/A18 (io), 53 P4_1/A17 (io), 54 P4_0/A16 (io), 55 P3_7/A15 (io), 56 P3_6/A14 (io), 57 P3_5/A13 (io), 58 P3_4/A12 (io), 59 P3_3/A11 (io), 60 P3_2/A10 (io), 61 P3_1/A9 (io), 63 P3_0/A8, [/-/D7] (io), 65 P2_7/A7, [/D7/D6] (io), 66 P2_6/A6, [/D6/D5] (io), 67 P2_5/A5, [/D5/D4] (io), 68 P2_4/A4, [/D4/D3] (io), 69 P2_3/A3, [/D3/D2] (io), 70 P2_2/A2, [/D2/D1] (io), 71 P2_1/A1 [D1/D0] (io), 72 P2_0/A0, [/D0/-] (io), 73 P1_7/~{INT}5/D15 (io), 74 P1_6/~{INT}4/D14 (io), 75 P1_5/D13/~{INT}3 (io), 76 P1_4/D12 (io), 77 P1_3/D11 (io), 78 P1_2/D10 (io), 79 P1_1/D9 (io), 80 P1_0/D8 (io), 81 P0_7/D7 (io), 82 P0_6/D6 (io), 83 P0_5/D5 (io), 84 P0_4/D4 (io), 85 P0_3/D3 (io), 86 P0_2/D2 (io), 87 P0_1/D1 (io), 88 P0_0/D0 (io), 89 P10_7/~{KI}3/AN_7 (io), 90 P10_6/~{KI}2/AN_6 (io), 91 P10_5/~{KI}1/AN_5 (io), 92 P10_4/~{KI}0/AN_4 (io), 93 P10_3/AN_3 (io), 94 P10_2/AN_2 (io), 95 P10_1/AN_1 (io), 97 P10_0/AN_0 (io), 98 VREF (in), 100 P9_7/~{ADTRG}/SIN4 (io)
part B pins: 14 VSS (power), 16 VCC (power), 62 VCC (power), 64 VSS (power), 96 AVSS (power), 99 AVCC (power)

## M30622MCA-XXXGP
designator U?
Masked ROM M16C/60 Series, 62A Group MCU, 128K ROM, 5K RAM, 100-pin LQFP; Note: P7_0 and P7_1 are N channel open-drain output pins.; Published: 28-Aug-2009; DatasheetVersion: Rev.1.0, Jun-2001; PackageVersion: Sep-2005; PackageReference: PLQP0100KB-A; Publisher: Altium Limited; PackageDescription: 100-Pin Plastic Low Profile QFP, 14 x 14 x 1.4 mm Body, 0.5 mm Pitch; Code_JEITA: P-LQFP100-14x14-0.50; Code_IPC: SQFP50P1600X1600-100; ComponentLink1Description: Manufacturer Link; ComponentLink1URL: http://sg.renesas.com/fmwk.jsp?cnt=m16c_family_landing.jsp&fp=/products/mpumcu/m16c_family/; ComponentLink2Description: Datasheet; ComponentLink2URL: http://documentation.renesas.com/eng/products/mpumcu/62aeum.pdf; ComponentLink3Description: Packaging Specification; ComponentLink3URL: http://sg.renesas.com/media/products/common_info/package/pdf/ic/code/plqp0100kb_a.pdf
footprint PLQP0100KB-A_N (Shrink QFP, 100-Leads, Body 14x14mm, Pitch 0.5mm, IPC Medium Density)
footprint PLQP0100KB-A_L (Shrink QFP, 100-Leads, Body 14x14mm, Pitch 0.5mm, IPC High Density)
footprint PLQP0100KB-A_M (Shrink QFP, 100-Leads, Body 14x14mm, Pitch 0.5mm, IPC Low Density)
part A pins: 1 P9_4/DA1/TB4IN (io), 2 P9_3/DA0/TB3IN (io), 3 P9_2/TB2IN/SOUT3 (io), 4 P9_1/TB1IN/SIN3 (io), 5 P9_0/TB0IN/CLK3 (io), 6 BYTE (in), 7 CNVSS (in), 8 P8_7/XCIN (io), 9 P8_6/XCOUT (io), 10 ~{RESET} (in), 11 XOUT (out), 13 XIN (in), 15 P8_5/~{NMI} (io), 16 P8_4/~{INT}2 (io), 17 P8_3/~{INT}1 (io), 18 P8_2/~{INT}0 (io), 19 P8_1/TA4IN/~{U} (io), 20 P8_0/TA4OUT/U (io), 21 P7_7/TA3IN (io), 22 P7_6/TA3OUT (io), 23 P7_5/TA2IN/~{W} (io), 24 P7_4/TA2OUT/W (io), 25 P7_3/TA1IN/~{V}/~{CTS}2/~{RTS}2 (io), 26 P7_2/TA1OUT/V/CLK2 (io), 27 P7_1/RxD2/SCL/TA0IN/TB5IN (io), 28 P7_0/TxD2/SDA/TA0OUT (io), 29 P6_7/TxD1 (io), 30 P6_6/RxD1 (io), 31 P6_5/CLK1 (io), 32 P6_4/~{CTS}1/~{RTS}1/CLKS1 (io), 33 P6_3/TxD0 (io), 34 P6_2/RxD0 (io), 35 P6_1/CLK0 (io), 36 P6_0/~{CTS}0/~{RTS}0 (io), 37 P5_7/~{RDY}/CLKOUT (io), 38 P5_6/ALE (io), 39 P5_5/~{HOLD} (io), 40 P5_4/~{HLDA} (io), 41 P5_3/BCLK (io), 42 P5_2/~{RD} (io), 43 P5_1/~{WRH}/~{BHE} (io), 44 P5_0/~{WRL}/~{WR} (io), 45 P4_7/~{CS}3 (io), 46 P4_6/~{CS}2 (io), 47 P4_5/~{CS}1 (io), 48 P4_4/~{CS}0 (io), 49 P4_3/A19 (io), 50 P4_2/A18 (io), 51 P4_1/A17 (io), 52 P4_0/A16 (io), 53 P3_7/A15 (io), 54 P3_6/A14 (io), 55 P3_5/A13 (io), 56 P3_4/A12 (io), 57 P3_3/A11 (io), 58 P3_2/A10 (io), 59 P3_1/A9 (io), 61 P3_0/A8, [/-/D7] (io), 63 P2_7/A7, [/D7/D6] (io), 64 P2_6/A6, [/D6/D5] (io), 65 P2_5/A5, [/D5/D4] (io), 66 P2_4/A4, [/D4/D3] (io), 67 P2_3/A3, [/D3/D2] (io), 68 P2_2/A2, [/D2/D1] (io), 69 P2_1/A1 [D1/D0] (io), 70 P2_0/A0, [/D0/-] (io), 71 P1_7/~{INT}5/D15 (io), 72 P1_6/~{INT}4/D14 (io), 73 P1_5/D13/~{INT}3 (io), 74 P1_4/D12 (io), 75 P1_3/D11 (io), 76 P1_2/D10 (io), 77 P1_1/D9 (io), 78 P1_0/D8 (io), 79 P0_7/D7 (io), 80 P0_6/D6 (io), 81 P0_5/D5 (io), 82 P0_4/D4 (io), 83 P0_3/D3 (io), 84 P0_2/D2 (io), 85 P0_1/D1 (io), 86 P0_0/D0 (io), 87 P10_7/~{KI}3/AN_7 (io), 88 P10_6/~{KI}2/AN_6 (io), 89 P10_5/~{KI}1/AN_5 (io), 90 P10_4/~{KI}0/AN_4 (io), 91 P10_3/AN_3 (io), 92 P10_2/AN_2 (io), 93 P10_1/AN_1 (io), 95 P10_0/AN_0 (io), 96 VREF (in), 98 P9_7/~{ADTRG}/SIN4 (io), 99 P9_6/ANEX1/SOUT4 (io), 100 P9_5/ANEX0/CLK4 (io)
part B pins: 12 VSS (power), 14 VCC (power), 60 VCC (power), 62 VSS (power), 94 AVSS (power), 97 AVCC (power)

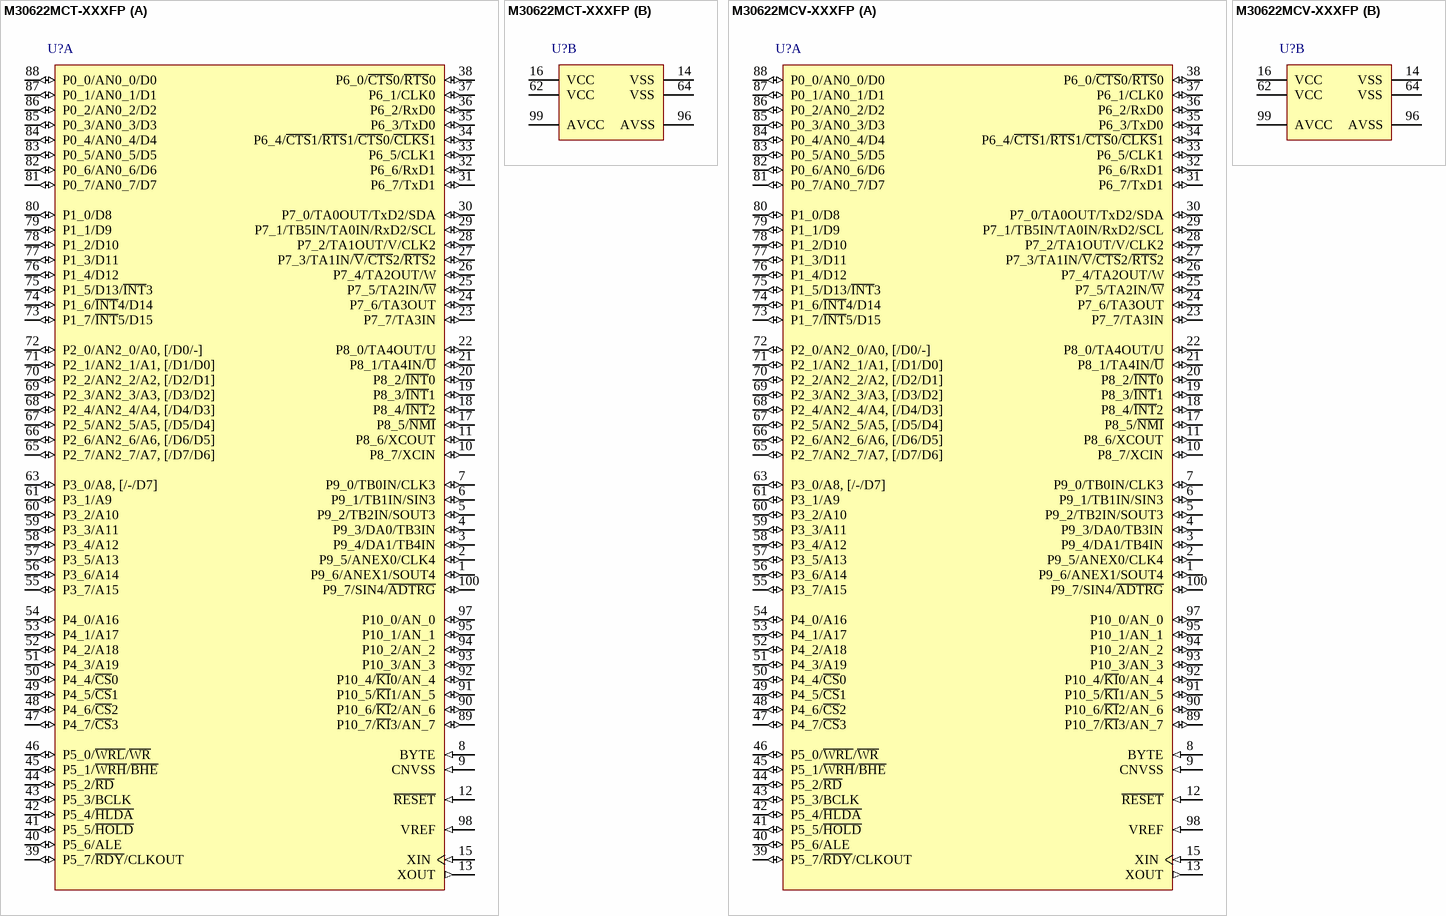
[diagram p96: symbols M30622MCT-XXXFP to M30622MCV-XXXFP]

## M30622MCT-XXXFP
designator U?
Mask ROM M16C/60 Series, 62T Group MCU, 128K ROM, 5K RAM, 100-pin RQFP, +85°C; Note: P7_0 and P7_1 are N channel open-drain output pins.; Published: 28-Aug-2009; DatasheetVersion: Rev.A1, Aug-1999; PackageVersion: Sep-2005; PackageReference: PRQP0100JB-A; Publisher: Altium Limited; PackageDescription: 100-Pin Plastic Quad Flat Pack, 20 x 14 x 2.8 mm Body, 0.65 mm Pitch; Code_JEITA: P-QFP100-14x20-0.65; ComponentLink1Description: Manufacturer Link; ComponentLink1URL: http://sg.renesas.com/fmwk.jsp?cnt=m16c_family_landing.jsp&fp=/products/mpumcu/m16c_family/; ComponentLink2Description: Datasheet; ComponentLink2URL: http://documentation.renesas.com/eng/products/mpumcu/62teds.pdf; ComponentLink3Description: Packaging Specification; ComponentLink3URL: http://sg.renesas.com/media/products/common_info/package/pdf/ic/code/prqp0100jb_a.pdf
footprint PRQP0100JB-A_N (QFP, 100-Leads, Body 20x14mm, Pitch 0.65mm, IPC Medium Density)
footprint PRQP0100JB-A_L (QFP, 100-Leads, Body 20x14mm, Pitch 0.65mm, IPC High Density)
footprint PRQP0100JB-A_M (QFP, 100-Leads, Body 20x14mm, Pitch 0.65mm, IPC Low Density)
part A pins: 1 P9_6/ANEX1/SOUT4 (io), 2 P9_5/ANEX0/CLK4 (io), 3 P9_4/DA1/TB4IN (io), 4 P9_3/DA0/TB3IN (io), 5 P9_2/TB2IN/SOUT3 (io), 6 P9_1/TB1IN/SIN3 (io), 7 P9_0/TB0IN/CLK3 (io), 8 BYTE (in), 9 CNVSS (in), 10 P8_7/XCIN (io), 11 P8_6/XCOUT (io), 12 ~{RESET} (in), 13 XOUT (out), 15 XIN (in), 17 P8_5/~{NMI} (io), 18 P8_4/~{INT}2 (io), 19 P8_3/~{INT}1 (io), 20 P8_2/~{INT}0 (io), 21 P8_1/TA4IN/~{U} (io), 22 P8_0/TA4OUT/U (io), 23 P7_7/TA3IN (io), 24 P7_6/TA3OUT (io), 25 P7_5/TA2IN/~{W} (io), 26 P7_4/TA2OUT/W (io), 27 P7_3/TA1IN/~{V}/~{CTS}2/~{RTS}2 (io), 28 P7_2/TA1OUT/V/CLK2 (io), 29 P7_1/TB5IN/TA0IN/RxD2/SCL (io), 30 P7_0/TA0OUT/TxD2/SDA (io), 31 P6_7/TxD1 (io), 32 P6_6/RxD1 (io), 33 P6_5/CLK1 (io), 34 P6_4/~{CTS}1/~{RTS}1/~{CTS}0/~{CLKS}1 (io), 35 P6_3/TxD0 (io), 36 P6_2/RxD0 (io), 37 P6_1/CLK0 (io), 38 P6_0/~{CTS}0/~{RTS}0 (io), 39 P5_7/~{RDY}/CLKOUT (io), 40 P5_6/ALE (io), 41 P5_5/~{HOLD} (io), 42 P5_4/~{HLDA} (io), 43 P5_3/BCLK (io), 44 P5_2/~{RD} (io), 45 P5_1/~{WRH}/~{BHE} (io), 46 P5_0/~{WRL}/~{WR} (io), 47 P4_7/~{CS}3 (io), 48 P4_6/~{CS}2 (io), 49 P4_5/~{CS}1 (io), 50 P4_4/~{CS}0 (io), 51 P4_3/A19 (io), 52 P4_2/A18 (io), 53 P4_1/A17 (io), 54 P4_0/A16 (io), 55 P3_7/A15 (io), 56 P3_6/A14 (io), 57 P3_5/A13 (io), 58 P3_4/A12 (io), 59 P3_3/A11 (io), 60 P3_2/A10 (io), 61 P3_1/A9 (io), 63 P3_0/A8, [/-/D7] (io), 65 P2_7/AN2_7/A7, [/D7/D6] (io), 66 P2_6/AN2_6/A6, [/D6/D5] (io), 67 P2_5/AN2_5/A5, [/D5/D4] (io), 68 P2_4/AN2_4/A4, [/D4/D3] (io), 69 P2_3/AN2_3/A3, [/D3/D2] (io), 70 P2_2/AN2_2/A2, [/D2/D1] (io), 71 P2_1/AN2_1/A1, [/D1/D0] (io), 72 P2_0/AN2_0/A0, [/D0/-] (io), 73 P1_7/~{INT}5/D15 (io), 74 P1_6/~{INT}4/D14 (io), 75 P1_5/D13/~{INT}3 (io), 76 P1_4/D12 (io), 77 P1_3/D11 (io), 78 P1_2/D10 (io), 79 P1_1/D9 (io), 80 P1_0/D8 (io), 81 P0_7/AN0_7/D7 (io), 82 P0_6/AN0_6/D6 (io), 83 P0_5/AN0_5/D5 (io), 84 P0_4/AN0_4/D4 (io), 85 P0_3/AN0_3/D3 (io), 86 P0_2/AN0_2/D2 (io), 87 P0_1/AN0_1/D1 (io), 88 P0_0/AN0_0/D0 (io), 89 P10_7/~{KI}3/AN_7 (io), 90 P10_6/~{KI}2/AN_6 (io), 91 P10_5/~{KI}1/AN_5 (io), 92 P10_4/~{KI}0/AN_4 (io), 93 P10_3/AN_3 (io), 94 P10_2/AN_2 (io), 95 P10_1/AN_1 (io), 97 P10_0/AN_0 (io), 98 VREF (in), 100 P9_7/SIN4/~{ADTRG} (io)
part B pins: 14 VSS (power), 16 VCC (power), 62 VCC (power), 64 VSS (power), 96 AVSS (power), 99 AVCC (power)

## M30622MCV-XXXFP
designator U?
Mask ROM M16C/60 Series, 62T Group MCU, 128K ROM, 5K RAM, 100-pin RQFP, +125°C; Note: P7_0 and P7_1 are N channel open-drain output pins.; Published: 28-Aug-2009; DatasheetVersion: Rev.A1, Aug-1999; PackageVersion: Sep-2005; PackageReference: PRQP0100JB-A; Publisher: Altium Limited; PackageDescription: 100-Pin Plastic Quad Flat Pack, 20 x 14 x 2.8 mm Body, 0.65 mm Pitch; Code_JEITA: P-QFP100-14x20-0.65; ComponentLink1Description: Manufacturer Link; ComponentLink1URL: http://sg.renesas.com/fmwk.jsp?cnt=m16c_family_landing.jsp&fp=/products/mpumcu/m16c_family/; ComponentLink2Description: Datasheet; ComponentLink2URL: http://documentation.renesas.com/eng/products/mpumcu/62teds.pdf; ComponentLink3Description: Packaging Specification; ComponentLink3URL: http://sg.renesas.com/media/products/common_info/package/pdf/ic/code/prqp0100jb_a.pdf
footprint PRQP0100JB-A_N (QFP, 100-Leads, Body 20x14mm, Pitch 0.65mm, IPC Medium Density)
footprint PRQP0100JB-A_L (QFP, 100-Leads, Body 20x14mm, Pitch 0.65mm, IPC High Density)
footprint PRQP0100JB-A_M (QFP, 100-Leads, Body 20x14mm, Pitch 0.65mm, IPC Low Density)
part A pins: 1 P9_6/ANEX1/SOUT4 (io), 2 P9_5/ANEX0/CLK4 (io), 3 P9_4/DA1/TB4IN (io), 4 P9_3/DA0/TB3IN (io), 5 P9_2/TB2IN/SOUT3 (io), 6 P9_1/TB1IN/SIN3 (io), 7 P9_0/TB0IN/CLK3 (io), 8 BYTE (in), 9 CNVSS (in), 10 P8_7/XCIN (io), 11 P8_6/XCOUT (io), 12 ~{RESET} (in), 13 XOUT (out), 15 XIN (in), 17 P8_5/~{NMI} (io), 18 P8_4/~{INT}2 (io), 19 P8_3/~{INT}1 (io), 20 P8_2/~{INT}0 (io), 21 P8_1/TA4IN/~{U} (io), 22 P8_0/TA4OUT/U (io), 23 P7_7/TA3IN (io), 24 P7_6/TA3OUT (io), 25 P7_5/TA2IN/~{W} (io), 26 P7_4/TA2OUT/W (io), 27 P7_3/TA1IN/~{V}/~{CTS}2/~{RTS}2 (io), 28 P7_2/TA1OUT/V/CLK2 (io), 29 P7_1/TB5IN/TA0IN/RxD2/SCL (io), 30 P7_0/TA0OUT/TxD2/SDA (io), 31 P6_7/TxD1 (io), 32 P6_6/RxD1 (io), 33 P6_5/CLK1 (io), 34 P6_4/~{CTS}1/~{RTS}1/~{CTS}0/~{CLKS}1 (io), 35 P6_3/TxD0 (io), 36 P6_2/RxD0 (io), 37 P6_1/CLK0 (io), 38 P6_0/~{CTS}0/~{RTS}0 (io), 39 P5_7/~{RDY}/CLKOUT (io), 40 P5_6/ALE (io), 41 P5_5/~{HOLD} (io), 42 P5_4/~{HLDA} (io), 43 P5_3/BCLK (io), 44 P5_2/~{RD} (io), 45 P5_1/~{WRH}/~{BHE} (io), 46 P5_0/~{WRL}/~{WR} (io), 47 P4_7/~{CS}3 (io), 48 P4_6/~{CS}2 (io), 49 P4_5/~{CS}1 (io), 50 P4_4/~{CS}0 (io), 51 P4_3/A19 (io), 52 P4_2/A18 (io), 53 P4_1/A17 (io), 54 P4_0/A16 (io), 55 P3_7/A15 (io), 56 P3_6/A14 (io), 57 P3_5/A13 (io), 58 P3_4/A12 (io), 59 P3_3/A11 (io), 60 P3_2/A10 (io), 61 P3_1/A9 (io), 63 P3_0/A8, [/-/D7] (io), 65 P2_7/AN2_7/A7, [/D7/D6] (io), 66 P2_6/AN2_6/A6, [/D6/D5] (io), 67 P2_5/AN2_5/A5, [/D5/D4] (io), 68 P2_4/AN2_4/A4, [/D4/D3] (io), 69 P2_3/AN2_3/A3, [/D3/D2] (io), 70 P2_2/AN2_2/A2, [/D2/D1] (io), 71 P2_1/AN2_1/A1, [/D1/D0] (io), 72 P2_0/AN2_0/A0, [/D0/-] (io), 73 P1_7/~{INT}5/D15 (io), 74 P1_6/~{INT}4/D14 (io), 75 P1_5/D13/~{INT}3 (io), 76 P1_4/D12 (io), 77 P1_3/D11 (io), 78 P1_2/D10 (io), 79 P1_1/D9 (io), 80 P1_0/D8 (io), 81 P0_7/AN0_7/D7 (io), 82 P0_6/AN0_6/D6 (io), 83 P0_5/AN0_5/D5 (io), 84 P0_4/AN0_4/D4 (io), 85 P0_3/AN0_3/D3 (io), 86 P0_2/AN0_2/D2 (io), 87 P0_1/AN0_1/D1 (io), 88 P0_0/AN0_0/D0 (io), 89 P10_7/~{KI}3/AN_7 (io), 90 P10_6/~{KI}2/AN_6 (io), 91 P10_5/~{KI}1/AN_5 (io), 92 P10_4/~{KI}0/AN_4 (io), 93 P10_3/AN_3 (io), 94 P10_2/AN_2 (io), 95 P10_1/AN_1 (io), 97 P10_0/AN_0 (io), 98 VREF (in), 100 P9_7/SIN4/~{ADTRG} (io)
part B pins: 14 VSS (power), 16 VCC (power), 62 VCC (power), 64 VSS (power), 96 AVSS (power), 99 AVCC (power)

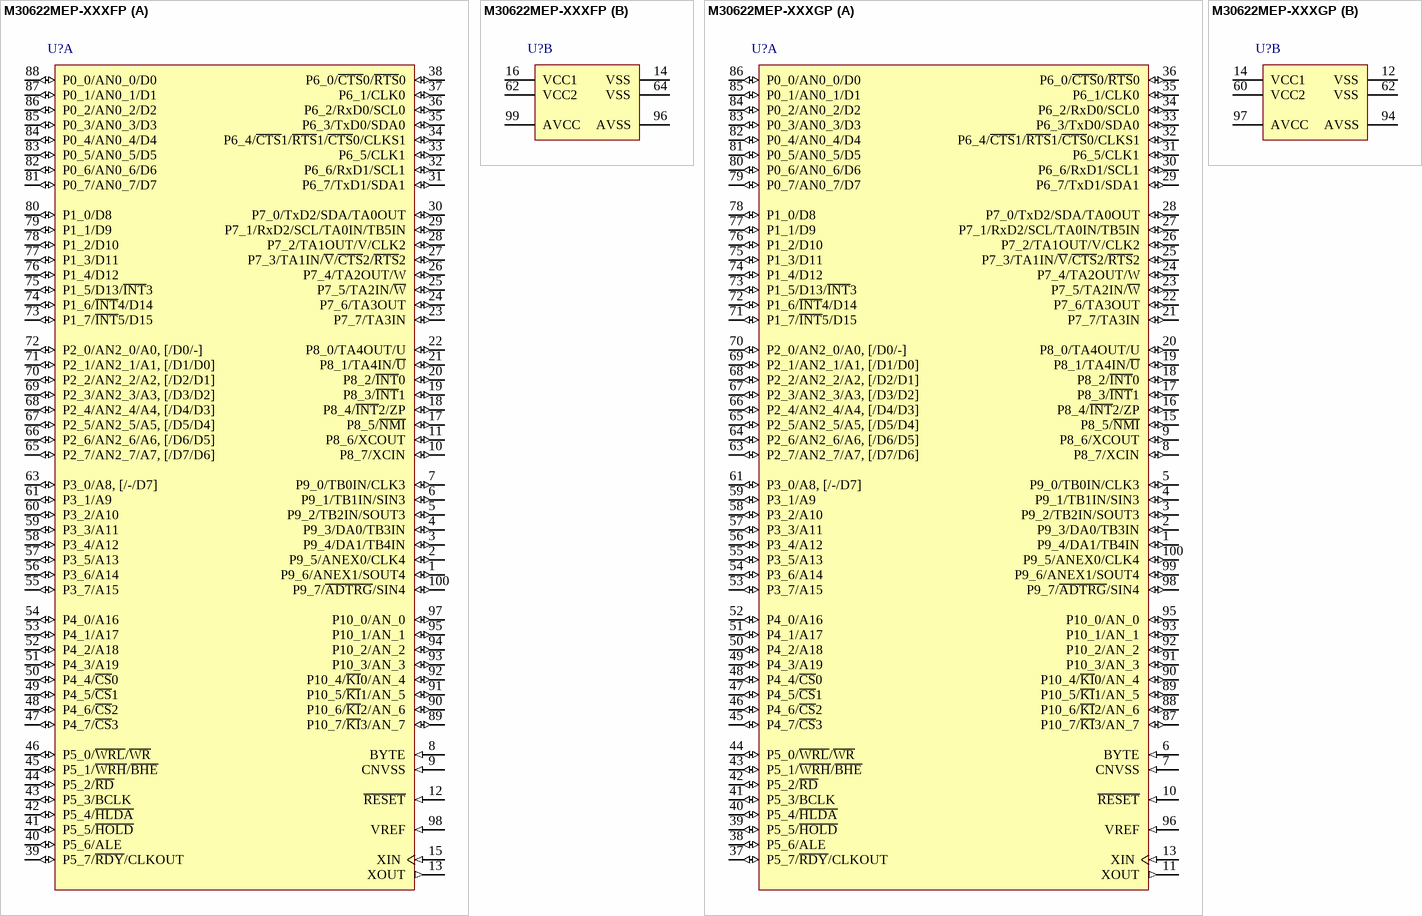
[diagram p97: symbols M30622MEP-XXXFP to M30622MEP-XXXGP]

## M30622MEP-XXXFP
designator U?
Mask ROM M16C/60 Series, 62P Group MCU, 192K ROM, 12K RAM, 100-pin RQFP; Note: P7_0 and P7_1 are N channel open-drain output pins.; Published: 28-Aug-2009; DatasheetVersion: Rev.2.41, Jan-2006; PackageVersion: Sep-2005; PackageReference: PRQP0100JB-A; Publisher: Altium Limited; PackageDescription: 100-Pin Plastic Quad Flat Pack, 20 x 14 x 2.8 mm Body, 0.65 mm Pitch; Code_JEITA: P-QFP100-14x20-0.65; ComponentLink1Description: Manufacturer Link; ComponentLink1URL: http://sg.renesas.com/fmwk.jsp?cnt=m16c_family_landing.jsp&fp=/products/mpumcu/m16c_family/; ComponentLink2Description: Datasheet; ComponentLink2URL: http://documentation.renesas.com/eng/products/mpumcu/rej09b0185_16c62pthm.pdf; ComponentLink3Description: Packaging Specification; ComponentLink3URL: http://sg.renesas.com/media/products/common_info/package/pdf/ic/code/prqp0100jb_a.pdf
footprint PRQP0100JB-A_N (QFP, 100-Leads, Body 20x14mm, Pitch 0.65mm, IPC Medium Density)
footprint PRQP0100JB-A_L (QFP, 100-Leads, Body 20x14mm, Pitch 0.65mm, IPC High Density)
footprint PRQP0100JB-A_M (QFP, 100-Leads, Body 20x14mm, Pitch 0.65mm, IPC Low Density)
part A pins: 1 P9_6/ANEX1/SOUT4 (io), 2 P9_5/ANEX0/CLK4 (io), 3 P9_4/DA1/TB4IN (io), 4 P9_3/DA0/TB3IN (io), 5 P9_2/TB2IN/SOUT3 (io), 6 P9_1/TB1IN/SIN3 (io), 7 P9_0/TB0IN/CLK3 (io), 8 BYTE (in), 9 CNVSS (in), 10 P8_7/XCIN (io), 11 P8_6/XCOUT (io), 12 ~{RESET} (in), 13 XOUT (out), 15 XIN (in), 17 P8_5/~{NMI} (io), 18 P8_4/~{INT}2/ZP (io), 19 P8_3/~{INT}1 (io), 20 P8_2/~{INT}0 (io), 21 P8_1/TA4IN/~{U} (io), 22 P8_0/TA4OUT/U (io), 23 P7_7/TA3IN (io), 24 P7_6/TA3OUT (io), 25 P7_5/TA2IN/~{W} (io), 26 P7_4/TA2OUT/W (io), 27 P7_3/TA1IN/~{V}/~{CTS}2/~{RTS}2 (io), 28 P7_2/TA1OUT/V/CLK2 (io), 29 P7_1/RxD2/SCL/TA0IN/TB5IN (io), 30 P7_0/TxD2/SDA/TA0OUT (io), 31 P6_7/TxD1/SDA1 (io), 32 P6_6/RxD1/SCL1 (io), 33 P6_5/CLK1 (io), 34 P6_4/~{CTS}1/~{RTS}1/~{CTS}0/CLKS1 (io), 35 P6_3/TxD0/SDA0 (io), 36 P6_2/RxD0/SCL0 (io), 37 P6_1/CLK0 (io), 38 P6_0/~{CTS}0/~{RTS}0 (io), 39 P5_7/~{RDY}/CLKOUT (io), 40 P5_6/ALE (io), 41 P5_5/~{HOLD} (io), 42 P5_4/~{HLDA} (io), 43 P5_3/BCLK (io), 44 P5_2/~{RD} (io), 45 P5_1/~{WRH}/~{BHE} (io), 46 P5_0/~{WRL}/~{WR} (io), 47 P4_7/~{CS}3 (io), 48 P4_6/~{CS}2 (io), 49 P4_5/~{CS}1 (io), 50 P4_4/~{CS}0 (io), 51 P4_3/A19 (io), 52 P4_2/A18 (io), 53 P4_1/A17 (io), 54 P4_0/A16 (io), 55 P3_7/A15 (io), 56 P3_6/A14 (io), 57 P3_5/A13 (io), 58 P3_4/A12 (io), 59 P3_3/A11 (io), 60 P3_2/A10 (io), 61 P3_1/A9 (io), 63 P3_0/A8, [/-/D7] (io), 65 P2_7/AN2_7/A7, [/D7/D6] (io), 66 P2_6/AN2_6/A6, [/D6/D5] (io), 67 P2_5/AN2_5/A5, [/D5/D4] (io), 68 P2_4/AN2_4/A4, [/D4/D3] (io), 69 P2_3/AN2_3/A3, [/D3/D2] (io), 70 P2_2/AN2_2/A2, [/D2/D1] (io), 71 P2_1/AN2_1/A1, [/D1/D0] (io), 72 P2_0/AN2_0/A0, [/D0/-] (io), 73 P1_7/~{INT}5/D15 (io), 74 P1_6/~{INT}4/D14 (io), 75 P1_5/D13/~{INT}3 (io), 76 P1_4/D12 (io), 77 P1_3/D11 (io), 78 P1_2/D10 (io), 79 P1_1/D9 (io), 80 P1_0/D8 (io), 81 P0_7/AN0_7/D7 (io), 82 P0_6/AN0_6/D6 (io), 83 P0_5/AN0_5/D5 (io), 84 P0_4/AN0_4/D4 (io), 85 P0_3/AN0_3/D3 (io), 86 P0_2/AN0_2/D2 (io), 87 P0_1/AN0_1/D1 (io), 88 P0_0/AN0_0/D0 (io), 89 P10_7/~{KI}3/AN_7 (io), 90 P10_6/~{KI}2/AN_6 (io), 91 P10_5/~{KI}1/AN_5 (io), 92 P10_4/~{KI}0/AN_4 (io), 93 P10_3/AN_3 (io), 94 P10_2/AN_2 (io), 95 P10_1/AN_1 (io), 97 P10_0/AN_0 (io), 98 VREF (in), 100 P9_7/~{ADTRG}/SIN4 (io)
part B pins: 14 VSS (power), 16 VCC1 (power), 62 VCC2 (power), 64 VSS (power), 96 AVSS (power), 99 AVCC (power)

## M30622MEP-XXXGP
designator U?
Mask ROM M16C/60 Series, 62P Group MCU, 192K ROM, 12K RAM, 100-pin LQFP; Note: P7_0 and P7_1 are N channel open-drain output pins.; Published: 28-Aug-2009; DatasheetVersion: Rev.2.41, Jan-2006; PackageVersion: Sep-2005; PackageReference: PLQP0100KB-A; Publisher: Altium Limited; PackageDescription: 100-Pin Plastic Low Profile QFP, 14 x 14 x 1.4 mm Body, 0.5 mm Pitch; Code_JEITA: P-LQFP100-14x14-0.50; Code_IPC: SQFP50P1600X1600-100; ComponentLink1Description: Manufacturer Link; ComponentLink1URL: http://sg.renesas.com/fmwk.jsp?cnt=m16c_family_landing.jsp&fp=/products/mpumcu/m16c_family/; ComponentLink2Description: Datasheet; ComponentLink2URL: http://documentation.renesas.com/eng/products/mpumcu/rej09b0185_16c62pthm.pdf; ComponentLink3Description: Packaging Specification; ComponentLink3URL: http://sg.renesas.com/media/products/common_info/package/pdf/ic/code/plqp0100kb_a.pdf
footprint PLQP0100KB-A_N (Shrink QFP, 100-Leads, Body 14x14mm, Pitch 0.5mm, IPC Medium Density)
footprint PLQP0100KB-A_L (Shrink QFP, 100-Leads, Body 14x14mm, Pitch 0.5mm, IPC High Density)
footprint PLQP0100KB-A_M (Shrink QFP, 100-Leads, Body 14x14mm, Pitch 0.5mm, IPC Low Density)
part A pins: 1 P9_4/DA1/TB4IN (io), 2 P9_3/DA0/TB3IN (io), 3 P9_2/TB2IN/SOUT3 (io), 4 P9_1/TB1IN/SIN3 (io), 5 P9_0/TB0IN/CLK3 (io), 6 BYTE (in), 7 CNVSS (in), 8 P8_7/XCIN (io), 9 P8_6/XCOUT (io), 10 ~{RESET} (in), 11 XOUT (out), 13 XIN (in), 15 P8_5/~{NMI} (io), 16 P8_4/~{INT}2/ZP (io), 17 P8_3/~{INT}1 (io), 18 P8_2/~{INT}0 (io), 19 P8_1/TA4IN/~{U} (io), 20 P8_0/TA4OUT/U (io), 21 P7_7/TA3IN (io), 22 P7_6/TA3OUT (io), 23 P7_5/TA2IN/~{W} (io), 24 P7_4/TA2OUT/W (io), 25 P7_3/TA1IN/~{V}/~{CTS}2/~{RTS}2 (io), 26 P7_2/TA1OUT/V/CLK2 (io), 27 P7_1/RxD2/SCL/TA0IN/TB5IN (io), 28 P7_0/TxD2/SDA/TA0OUT (io), 29 P6_7/TxD1/SDA1 (io), 30 P6_6/RxD1/SCL1 (io), 31 P6_5/CLK1 (io), 32 P6_4/~{CTS}1/~{RTS}1/~{CTS}0/CLKS1 (io), 33 P6_3/TxD0/SDA0 (io), 34 P6_2/RxD0/SCL0 (io), 35 P6_1/CLK0 (io), 36 P6_0/~{CTS}0/~{RTS}0 (io), 37 P5_7/~{RDY}/CLKOUT (io), 38 P5_6/ALE (io), 39 P5_5/~{HOLD} (io), 40 P5_4/~{HLDA} (io), 41 P5_3/BCLK (io), 42 P5_2/~{RD} (io), 43 P5_1/~{WRH}/~{BHE} (io), 44 P5_0/~{WRL}/~{WR} (io), 45 P4_7/~{CS}3 (io), 46 P4_6/~{CS}2 (io), 47 P4_5/~{CS}1 (io), 48 P4_4/~{CS}0 (io), 49 P4_3/A19 (io), 50 P4_2/A18 (io), 51 P4_1/A17 (io), 52 P4_0/A16 (io), 53 P3_7/A15 (io), 54 P3_6/A14 (io), 55 P3_5/A13 (io), 56 P3_4/A12 (io), 57 P3_3/A11 (io), 58 P3_2/A10 (io), 59 P3_1/A9 (io), 61 P3_0/A8, [/-/D7] (io), 63 P2_7/AN2_7/A7, [/D7/D6] (io), 64 P2_6/AN2_6/A6, [/D6/D5] (io), 65 P2_5/AN2_5/A5, [/D5/D4] (io), 66 P2_4/AN2_4/A4, [/D4/D3] (io), 67 P2_3/AN2_3/A3, [/D3/D2] (io), 68 P2_2/AN2_2/A2, [/D2/D1] (io), 69 P2_1/AN2_1/A1, [/D1/D0] (io), 70 P2_0/AN2_0/A0, [/D0/-] (io), 71 P1_7/~{INT}5/D15 (io), 72 P1_6/~{INT}4/D14 (io), 73 P1_5/D13/~{INT}3 (io), 74 P1_4/D12 (io), 75 P1_3/D11 (io), 76 P1_2/D10 (io), 77 P1_1/D9 (io), 78 P1_0/D8 (io), 79 P0_7/AN0_7/D7 (io), 80 P0_6/AN0_6/D6 (io), 81 P0_5/AN0_5/D5 (io), 82 P0_4/AN0_4/D4 (io), 83 P0_3/AN0_3/D3 (io), 84 P0_2/AN0_2/D2 (io), 85 P0_1/AN0_1/D1 (io), 86 P0_0/AN0_0/D0 (io), 87 P10_7/~{KI}3/AN_7 (io), 88 P10_6/~{KI}2/AN_6 (io), 89 P10_5/~{KI}1/AN_5 (io), 90 P10_4/~{KI}0/AN_4 (io), 91 P10_3/AN_3 (io), 92 P10_2/AN_2 (io), 93 P10_1/AN_1 (io), 95 P10_0/AN_0 (io), 96 VREF (in), 98 P9_7/~{ADTRG}/SIN4 (io), 99 P9_6/ANEX1/SOUT4 (io), 100 P9_5/ANEX0/CLK4 (io)
part B pins: 12 VSS (power), 14 VCC1 (power), 60 VCC2 (power), 62 VSS (power), 94 AVSS (power), 97 AVCC (power)

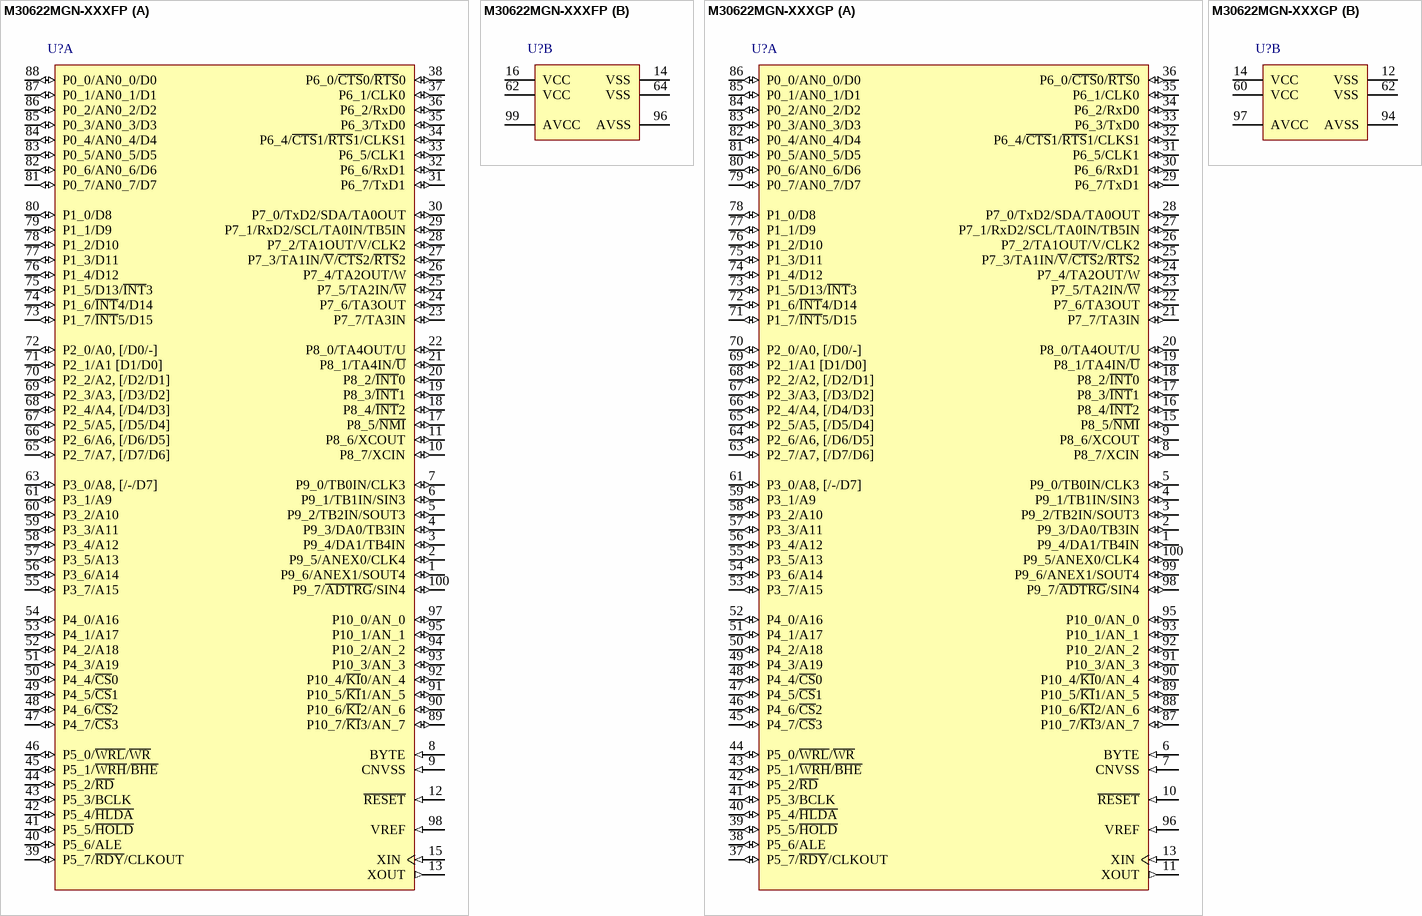
[diagram p98: symbols M30622MGN-XXXFP to M30622MGN-XXXGP]

## M30622MGN-XXXFP
designator U?
Mask ROM M16C/60 Series, 62N Group MCU, 256K ROM, 12K RAM, 100-pin RQFP; Note: P7_0 and P7_1 are N channel open-drain output pins.; Published: 28-Aug-2009; DatasheetVersion: Rev.1.1, Aug-2002; PackageVersion: Sep-2005; PackageReference: PRQP0100JB-A; Publisher: Altium Limited; PackageDescription: 100-Pin Plastic Quad Flat Pack, 20 x 14 x 2.8 mm Body, 0.65 mm Pitch; Code_JEITA: P-QFP100-14x20-0.65; ComponentLink1Description: Manufacturer Link; ComponentLink1URL: http://sg.renesas.com/fmwk.jsp?cnt=m16c_family_landing.jsp&fp=/products/mpumcu/m16c_family/; ComponentLink2Description: Datasheet; ComponentLink2URL: http://documentation.renesas.com/eng/products/mpumcu/e62nds.pdf; ComponentLink3Description: Packaging Specification; ComponentLink3URL: http://sg.renesas.com/media/products/common_info/package/pdf/ic/code/prqp0100jb_a.pdf
footprint PRQP0100JB-A_N (QFP, 100-Leads, Body 20x14mm, Pitch 0.65mm, IPC Medium Density)
footprint PRQP0100JB-A_L (QFP, 100-Leads, Body 20x14mm, Pitch 0.65mm, IPC High Density)
footprint PRQP0100JB-A_M (QFP, 100-Leads, Body 20x14mm, Pitch 0.65mm, IPC Low Density)
part A pins: 1 P9_6/ANEX1/SOUT4 (io), 2 P9_5/ANEX0/CLK4 (io), 3 P9_4/DA1/TB4IN (io), 4 P9_3/DA0/TB3IN (io), 5 P9_2/TB2IN/SOUT3 (io), 6 P9_1/TB1IN/SIN3 (io), 7 P9_0/TB0IN/CLK3 (io), 8 BYTE (in), 9 CNVSS (in), 10 P8_7/XCIN (io), 11 P8_6/XCOUT (io), 12 ~{RESET} (in), 13 XOUT (out), 15 XIN (in), 17 P8_5/~{NMI} (io), 18 P8_4/~{INT}2 (io), 19 P8_3/~{INT}1 (io), 20 P8_2/~{INT}0 (io), 21 P8_1/TA4IN/~{U} (io), 22 P8_0/TA4OUT/U (io), 23 P7_7/TA3IN (io), 24 P7_6/TA3OUT (io), 25 P7_5/TA2IN/~{W} (io), 26 P7_4/TA2OUT/W (io), 27 P7_3/TA1IN/~{V}/~{CTS}2/~{RTS}2 (io), 28 P7_2/TA1OUT/V/CLK2 (io), 29 P7_1/RxD2/SCL/TA0IN/TB5IN (io), 30 P7_0/TxD2/SDA/TA0OUT (io), 31 P6_7/TxD1 (io), 32 P6_6/RxD1 (io), 33 P6_5/CLK1 (io), 34 P6_4/~{CTS}1/~{RTS}1/CLKS1 (io), 35 P6_3/TxD0 (io), 36 P6_2/RxD0 (io), 37 P6_1/CLK0 (io), 38 P6_0/~{CTS}0/~{RTS}0 (io), 39 P5_7/~{RDY}/CLKOUT (io), 40 P5_6/ALE (io), 41 P5_5/~{HOLD} (io), 42 P5_4/~{HLDA} (io), 43 P5_3/BCLK (io), 44 P5_2/~{RD} (io), 45 P5_1/~{WRH}/~{BHE} (io), 46 P5_0/~{WRL}/~{WR} (io), 47 P4_7/~{CS}3 (io), 48 P4_6/~{CS}2 (io), 49 P4_5/~{CS}1 (io), 50 P4_4/~{CS}0 (io), 51 P4_3/A19 (io), 52 P4_2/A18 (io), 53 P4_1/A17 (io), 54 P4_0/A16 (io), 55 P3_7/A15 (io), 56 P3_6/A14 (io), 57 P3_5/A13 (io), 58 P3_4/A12 (io), 59 P3_3/A11 (io), 60 P3_2/A10 (io), 61 P3_1/A9 (io), 63 P3_0/A8, [/-/D7] (io), 65 P2_7/A7, [/D7/D6] (io), 66 P2_6/A6, [/D6/D5] (io), 67 P2_5/A5, [/D5/D4] (io), 68 P2_4/A4, [/D4/D3] (io), 69 P2_3/A3, [/D3/D2] (io), 70 P2_2/A2, [/D2/D1] (io), 71 P2_1/A1 [D1/D0] (io), 72 P2_0/A0, [/D0/-] (io), 73 P1_7/~{INT}5/D15 (io), 74 P1_6/~{INT}4/D14 (io), 75 P1_5/D13/~{INT}3 (io), 76 P1_4/D12 (io), 77 P1_3/D11 (io), 78 P1_2/D10 (io), 79 P1_1/D9 (io), 80 P1_0/D8 (io), 81 P0_7/AN0_7/D7 (io), 82 P0_6/AN0_6/D6 (io), 83 P0_5/AN0_5/D5 (io), 84 P0_4/AN0_4/D4 (io), 85 P0_3/AN0_3/D3 (io), 86 P0_2/AN0_2/D2 (io), 87 P0_1/AN0_1/D1 (io), 88 P0_0/AN0_0/D0 (io), 89 P10_7/~{KI}3/AN_7 (io), 90 P10_6/~{KI}2/AN_6 (io), 91 P10_5/~{KI}1/AN_5 (io), 92 P10_4/~{KI}0/AN_4 (io), 93 P10_3/AN_3 (io), 94 P10_2/AN_2 (io), 95 P10_1/AN_1 (io), 97 P10_0/AN_0 (io), 98 VREF (in), 100 P9_7/~{ADTRG}/SIN4 (io)
part B pins: 14 VSS (power), 16 VCC (power), 62 VCC (power), 64 VSS (power), 96 AVSS (power), 99 AVCC (power)

## M30622MGN-XXXGP
designator U?
Mask ROM M16C/60 Series, 62N Group MCU, 256K ROM, 12K RAM, 100-pin LQFP; Note: P7_0 and P7_1 are N channel open-drain output pins.; Published: 28-Aug-2009; DatasheetVersion: Rev.1.1, Aug-2002; PackageVersion: Sep-2005; PackageReference: PLQP0100KB-A; Publisher: Altium Limited; PackageDescription: 100-Pin Plastic Low Profile QFP, 14 x 14 x 1.4 mm Body, 0.5 mm Pitch; Code_JEITA: P-LQFP100-14x14-0.50; Code_IPC: SQFP50P1600X1600-100; ComponentLink1Description: Manufacturer Link; ComponentLink1URL: http://sg.renesas.com/fmwk.jsp?cnt=m16c_family_landing.jsp&fp=/products/mpumcu/m16c_family/; ComponentLink2Description: Datasheet; ComponentLink2URL: http://documentation.renesas.com/eng/products/mpumcu/e62nds.pdf; ComponentLink3Description: Packaging Specification; ComponentLink3URL: http://sg.renesas.com/media/products/common_info/package/pdf/ic/code/plqp0100kb_a.pdf
footprint PLQP0100KB-A_N (Shrink QFP, 100-Leads, Body 14x14mm, Pitch 0.5mm, IPC Medium Density)
footprint PLQP0100KB-A_L (Shrink QFP, 100-Leads, Body 14x14mm, Pitch 0.5mm, IPC High Density)
footprint PLQP0100KB-A_M (Shrink QFP, 100-Leads, Body 14x14mm, Pitch 0.5mm, IPC Low Density)
part A pins: 1 P9_4/DA1/TB4IN (io), 2 P9_3/DA0/TB3IN (io), 3 P9_2/TB2IN/SOUT3 (io), 4 P9_1/TB1IN/SIN3 (io), 5 P9_0/TB0IN/CLK3 (io), 6 BYTE (in), 7 CNVSS (in), 8 P8_7/XCIN (io), 9 P8_6/XCOUT (io), 10 ~{RESET} (in), 11 XOUT (out), 13 XIN (in), 15 P8_5/~{NMI} (io), 16 P8_4/~{INT}2 (io), 17 P8_3/~{INT}1 (io), 18 P8_2/~{INT}0 (io), 19 P8_1/TA4IN/~{U} (io), 20 P8_0/TA4OUT/U (io), 21 P7_7/TA3IN (io), 22 P7_6/TA3OUT (io), 23 P7_5/TA2IN/~{W} (io), 24 P7_4/TA2OUT/W (io), 25 P7_3/TA1IN/~{V}/~{CTS}2/~{RTS}2 (io), 26 P7_2/TA1OUT/V/CLK2 (io), 27 P7_1/RxD2/SCL/TA0IN/TB5IN (io), 28 P7_0/TxD2/SDA/TA0OUT (io), 29 P6_7/TxD1 (io), 30 P6_6/RxD1 (io), 31 P6_5/CLK1 (io), 32 P6_4/~{CTS}1/~{RTS}1/CLKS1 (io), 33 P6_3/TxD0 (io), 34 P6_2/RxD0 (io), 35 P6_1/CLK0 (io), 36 P6_0/~{CTS}0/~{RTS}0 (io), 37 P5_7/~{RDY}/CLKOUT (io), 38 P5_6/ALE (io), 39 P5_5/~{HOLD} (io), 40 P5_4/~{HLDA} (io), 41 P5_3/BCLK (io), 42 P5_2/~{RD} (io), 43 P5_1/~{WRH}/~{BHE} (io), 44 P5_0/~{WRL}/~{WR} (io), 45 P4_7/~{CS}3 (io), 46 P4_6/~{CS}2 (io), 47 P4_5/~{CS}1 (io), 48 P4_4/~{CS}0 (io), 49 P4_3/A19 (io), 50 P4_2/A18 (io), 51 P4_1/A17 (io), 52 P4_0/A16 (io), 53 P3_7/A15 (io), 54 P3_6/A14 (io), 55 P3_5/A13 (io), 56 P3_4/A12 (io), 57 P3_3/A11 (io), 58 P3_2/A10 (io), 59 P3_1/A9 (io), 61 P3_0/A8, [/-/D7] (io), 63 P2_7/A7, [/D7/D6] (io), 64 P2_6/A6, [/D6/D5] (io), 65 P2_5/A5, [/D5/D4] (io), 66 P2_4/A4, [/D4/D3] (io), 67 P2_3/A3, [/D3/D2] (io), 68 P2_2/A2, [/D2/D1] (io), 69 P2_1/A1 [D1/D0] (io), 70 P2_0/A0, [/D0/-] (io), 71 P1_7/~{INT}5/D15 (io), 72 P1_6/~{INT}4/D14 (io), 73 P1_5/D13/~{INT}3 (io), 74 P1_4/D12 (io), 75 P1_3/D11 (io), 76 P1_2/D10 (io), 77 P1_1/D9 (io), 78 P1_0/D8 (io), 79 P0_7/AN0_7/D7 (io), 80 P0_6/AN0_6/D6 (io), 81 P0_5/AN0_5/D5 (io), 82 P0_4/AN0_4/D4 (io), 83 P0_3/AN0_3/D3 (io), 84 P0_2/AN0_2/D2 (io), 85 P0_1/AN0_1/D1 (io), 86 P0_0/AN0_0/D0 (io), 87 P10_7/~{KI}3/AN_7 (io), 88 P10_6/~{KI}2/AN_6 (io), 89 P10_5/~{KI}1/AN_5 (io), 90 P10_4/~{KI}0/AN_4 (io), 91 P10_3/AN_3 (io), 92 P10_2/AN_2 (io), 93 P10_1/AN_1 (io), 95 P10_0/AN_0 (io), 96 VREF (in), 98 P9_7/~{ADTRG}/SIN4 (io), 99 P9_6/ANEX1/SOUT4 (io), 100 P9_5/ANEX0/CLK4 (io)
part B pins: 12 VSS (power), 14 VCC (power), 60 VCC (power), 62 VSS (power), 94 AVSS (power), 97 AVCC (power)

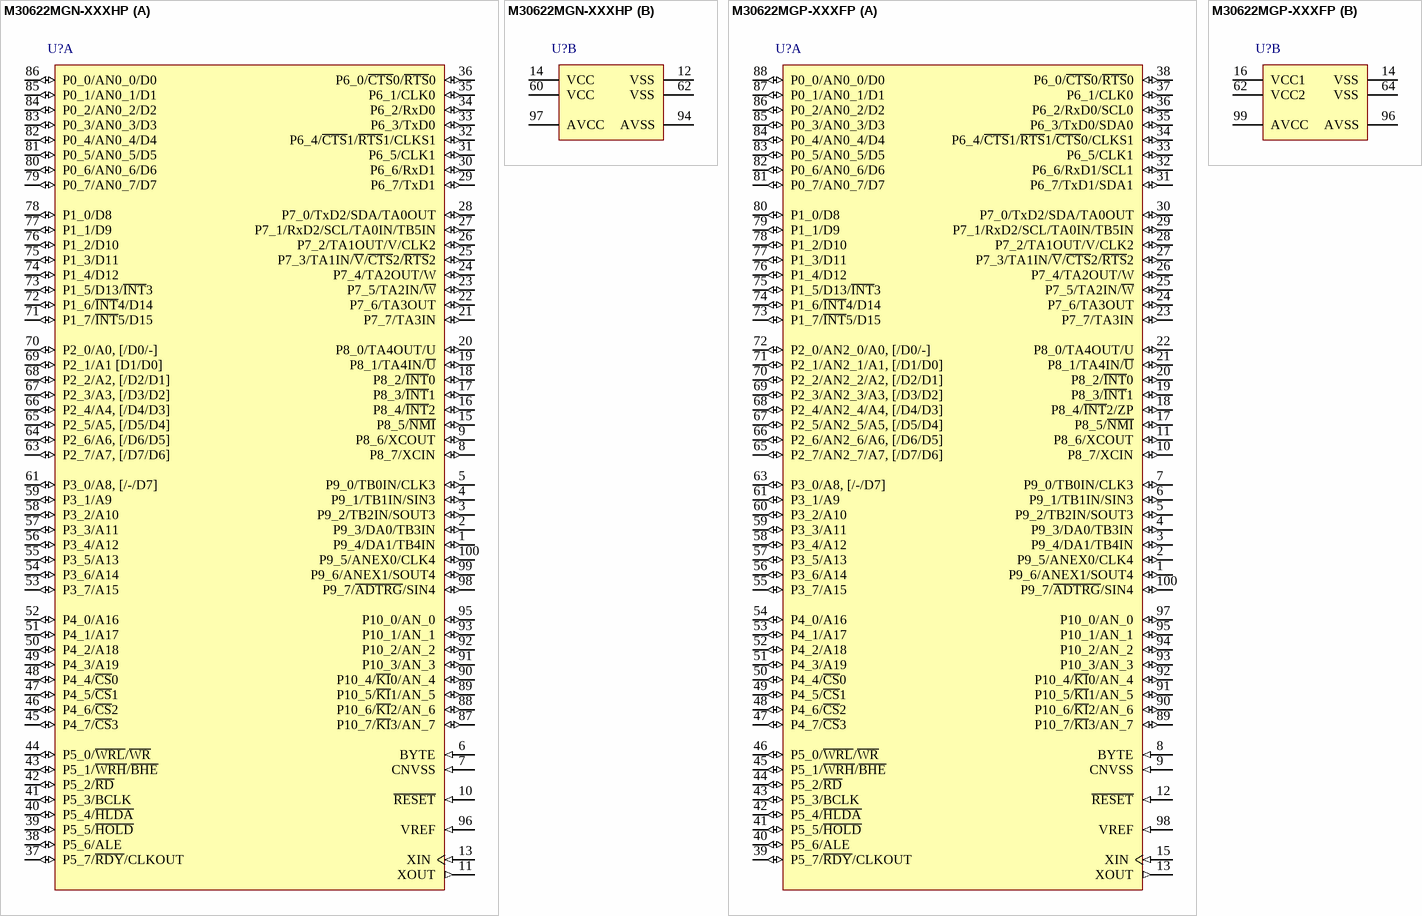
[diagram p99: symbols M30622MGN-XXXHP to M30622MGP-XXXFP]